# Altium schematic symbol library Altera.SchLib: 9 symbols (part 2 of 3)
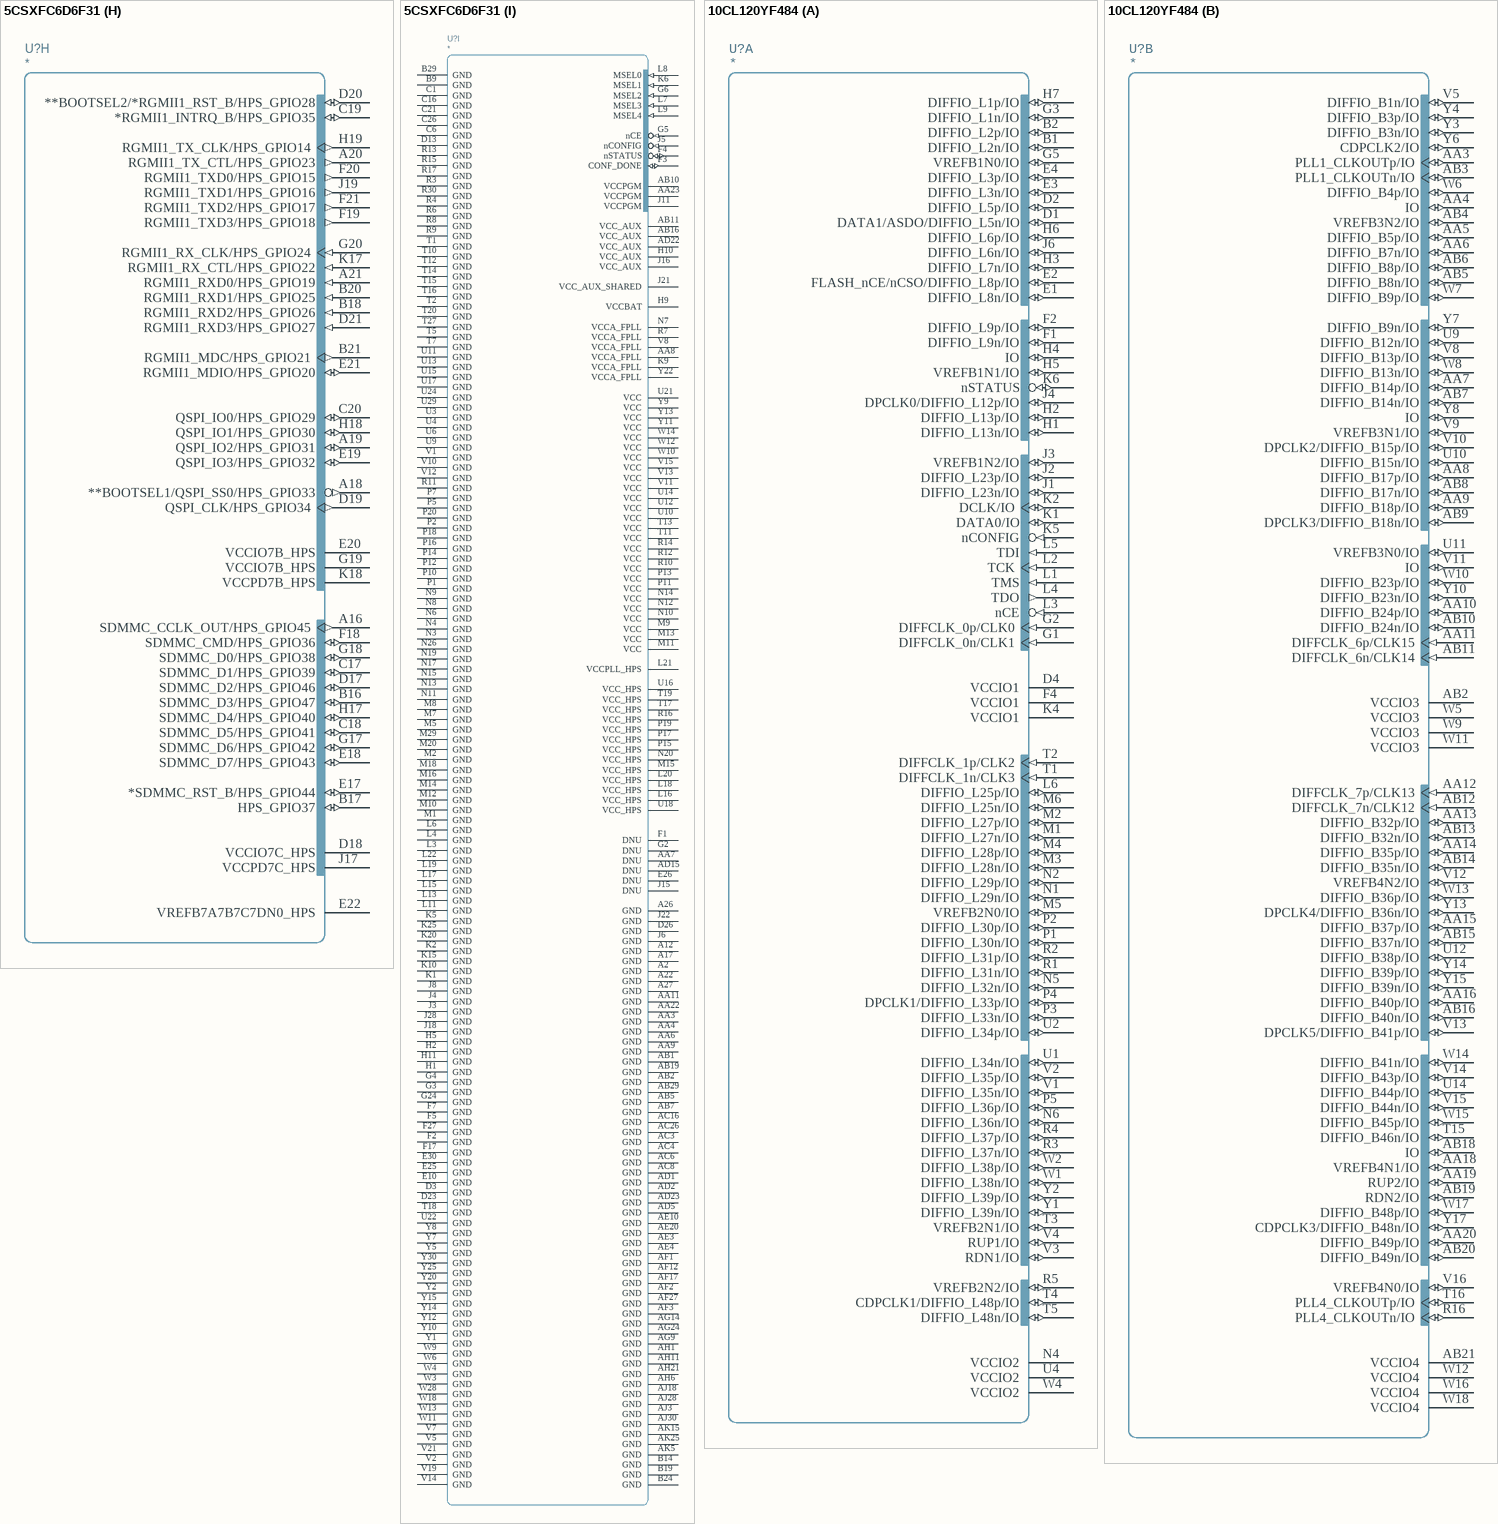
[diagram p14: symbols 5CSXFC6D6F31 to 10CL120YF484]

## 5CSXFC6D6F31
designator U?
part A pins: AA1 GXB_REFCLK_L2n/GXB_RX_L2n (in), AA2 GXB_REFCLK_L2p/GXB_RX_L2p (in), AA5 VCCE_GXBL, AB3 GXB_TX_L1n (out), AB4 GXB_TX_L1p (out), AB6 VCCH_GXBL, AC1 GXB_REFCLK_L1n/GXB_RX_L1n (in), AC2 GXB_REFCLK_L1p/GXB_RX_L1p (in), AD3 GXB_TX_L0n (out), AD4 GXB_TX_L0p (out), AE1 GXB_REFCLK_L0n/GXB_RX_L0n (in), AE2 GXB_REFCLK_L0p/GXB_RX_L0p (in), G1 RREF_TL (in), H3 GXB_TX_L8n (out), H4 GXB_TX_L8p (out), J1 GXB_REFCLK_L8n/GXB_RX_L8n (in), J2 GXB_REFCLK_L8p/GXB_RX_L8p (in), K3 GXB_TX_L7n (out), K4 GXB_TX_L7p (out), L1 GXB_REFCLK_L7n/GXB_RX_L7n (in), L2 GXB_REFCLK_L7p/GXB_RX_L7p (in), L5 VCCL_GXBL, M3 GXB_TX_L6n (out), M4 GXB_TX_L6p (out), M6 VCCE_GXBL, N1 GXB_REFCLK_L6n/GXB_RX_L6n (in), N2 GXB_REFCLK_L6p/GXB_RX_L6p (in), N5 VCCE_GXBL, P3 GXB_TX_L5n (out), P4 GXB_TX_L5p (out), P6 VCCH_GXBL, P8 REFCLK2Ln (in), P9 REFCLK2Lp (in), R1 GXB_REFCLK_L5n/GXB_RX_L5n (in), R2 GXB_REFCLK_L5p/GXB_RX_L5p (in), R5 VCCL_GXBL, T3 GXB_TX_L4n (out), T4 GXB_TX_L4p (out), T6 VCCE_GXBL, T8 REFCLK1Ln (in), T9 REFCLK1Lp (in), U1 GXB_REFCLK_L4n/GXB_RX_L4n (in), U2 GXB_REFCLK_L4p/GXB_RX_L4p (in), U5 VCCE_GXBL, V3 GXB_TX_L3n (out), V4 GXB_TX_L3p (out), V6 VCCH_GXBL, W1 GXB_REFCLK_L3n/GXB_RX_L3n (in), W2 GXB_REFCLK_L3p/GXB_RX_L3p (in), W5 VCCL_GXBL, W7 REFCLK0Ln (in), W8 REFCLK0Lp (in), Y3 GXB_TX_L2n (out), Y4 GXB_TX_L2p (out), Y6 VCCE_GXBL
part B pins: AA10 VCCPD3A, AA12 DIFFIO_RX_B11p/IO (io), AA13 DIFFIO_RX_B19p/IO (io), AA14 B_CK/DIFFIO_RX_B35p/IO (io), AA15 B_CK#/DIFFIO_RX_B35n/IO (io), AB8 nCSO/DATA4 (io), AB9 TDO (out), AB12 DIFFIO_RX_B11n/IO (io), AB13 DIFFIO_RX_B19n/IO (io), AB14 VCCIO3B, AB15 B_CS#_0/DIFFIO_RX_B27p/IO (io), AC5 TCK (in), AC7 AS_DATA3/DATA3 (io), AC9 DATA12/DIFFIO_RX_B3p/IO (io), AC10 VCCPD3A, AC11 VCCIO3A, AC12 DIFFIO_RX_B15p/IO (io), AC14 B_CS#_1/DIFFIO_RX_B27n/IO (io), AD6 VREFB3AN0, AD7 CLKUSR/DIFFIO_RX_B5p/IO (io), AD8 VCCIO3A, AD9 DATA7/DIFFIO_TX_B2p/IO (io), AD10 DATA10/DIFFIO_RX_B3n/IO (io), AD11 DATA8/DIFFIO_RX_B1p/IO (io), AD12 DIFFIO_RX_B15n/IO (io), AD13 VCCIO3B, AD14 DIFFIO_RX_B23p/IO (io), AE5 AS_DATA1/DATA1 (io), AE6 ASDO/AS_DATA0/DATA0 (io), AE7 DATA14/DIFFIO_RX_B5n/IO (io), AE8 AS_DATA2/DATA2 (io), AE9 DATA5/DIFFIO_TX_B2n/IO (io), AE11 DATA11/DIFFIO_TX_B4p/IO (io), AE12 DATA6/DIFFIO_RX_B1n/IO (io), AE13 DIFFIO_RX_B22p/IO (io), AE14 DIFFIO_RX_B23n/IO (io), AE15 VCCIO3B, AF4 PR_ERROR/DIFFIO_RX_B7p/IO (io), AF5 PR_DONE/DIFFIO_RX_B7n/IO (io), AF6 DIFFIO_TX_B12p/IO (io), AF7 VCCIO3A, AF8 DIFFIO_TX_B9p/IO (io), AF9 DIFFIO_TX_B8p/IO (io), AF10 DATA9/DIFFIO_TX_B4n/IO (io), AF11 DIFFIO_RX_B18p/IO (io), AF13 DIFFIO_RX_B22n/IO (io), AF14 CLK0p/FPLL_BL_FBp/DIFFIO_RX_B31p/IO (io), AF15 CLK0n/FPLL_BL_FBn/DIFFIO_RX_B31n/IO (io), AG1 DIFFIO_RX_B10p/IO (io), AG2 DIFFIO_TX_B16p/IO (io), AG3 DATA15/DIFFIO_TX_B6p/IO (io), AG4 VCCIO3A, AG5 DIFFIO_TX_B13p/IO (io), AG6 DIFFIO_TX_B12n/IO (io), AG7 DIFFIO_TX_B9n/IO (io), AG8 PR_READY/DIFFIO_TX_B8n/IO (io), AG10 DIFFIO_TX_B17p/IO (io), AG11 DIFFIO_RX_B18n/IO (io), AG12 B_A_14/DIFFIO_RX_B26p/IO (io), AG13 B_A_15/DIFFIO_RX_B26n/IO (io), AG15 B_A_4/DIFFIO_RX_B38p/IO (io), AH2 DIFFIO_RX_B10n/IO (io), AH3 DIFFIO_TX_B16n/IO (io), AH4 DATA13/DIFFIO_TX_B6n/IO (io), AH5 DIFFIO_TX_B13n/IO (io), AH7 B_CAS#/DIFFIO_TX_B32p/IO (io), AH8 B_RAS#/DIFFIO_TX_B32n/IO (io), AH9 DIFFIO_TX_B17n/IO (io), AH10 B_BA_0/DIFFIO_TX_B33p/IO (io), AH12 FPLL_BL_FB/FPLL_BL_CLKOUT0/FPLL_BL_CLKOUTp/B_A_2/DIFFIO_TX_B37p/IO (io), AH13 B_A_8/DIFFIO_RX_B30p/IO (io), AH14 B_A_9/DIFFIO_RX_B30n/IO (io), AH15 B_A_5/DIFFIO_RX_B38n/IO (io), AJ1 DIFFIO_RX_B14p/IO (io), AJ2 DIFFIO_RX_B14n/IO (io), AJ4 DIFFIO_TX_B21p/IO (io), AJ5 DIFFIO_TX_B24p/IO (io), AJ6 B_WE#/DIFFIO_TX_B25p/IO (io), AJ7 GND/DIFFIO_TX_B25n/IO (io), AJ8 VCCIO3B, AJ9 B_A_10/DIFFIO_TX_B29p/IO (io), AJ10 GND/DIFFIO_TX_B33n/IO (io), AJ11 B_BA_1/DIFFIO_RX_B34p/IO (io), AJ12 FPLL_BL_CLKOUT1/FPLL_BL_CLKOUTn/B_A_3/DIFFIO_TX_B37n/IO (io), AJ13 VCCIO3B, AJ14 B_A_0/DIFFIO_TX_B40p/IO (io), AJ15 VREFB3BN0, AK2 DIFFIO_TX_B20p/IO (io), AK3 DIFFIO_TX_B20n/IO (io), AK4 DIFFIO_TX_B21n/IO (io), AK6 DIFFIO_TX_B24n/IO (io), AK7 B_A_12/DIFFIO_TX_B28p/IO (io), AK8 B_A_13/DIFFIO_TX_B28n/IO (io), AK9 B_A_11/DIFFIO_TX_B29n/IO (io), AK10 VCCIO3B, AK11 B_BA_2/DIFFIO_RX_B34n/IO (io), AK12 B_A_6/DIFFIO_TX_B36p/IO (io), AK13 B_A_7/DIFFIO_TX_B36n/IO (io), AK14 B_A_1/DIFFIO_TX_B40n/IO (io), U7 DCLK (io), U8 TDI (in), V9 TMS (in), W15 CLK1p/DIFFIO_RX_B39p/IO (io), Y16 CLK1n/DIFFIO_RX_B39n/IO (io)
part C pins: AA16 CLK2p/DIFFIO_RX_B47p/IO (io), AA17 VCCIO4A, AA18 B_DQS#_2/DIFFIO_RX_B59n/IO (io), AA19 GND/DIFFIO_RX_B63n/IO (io), AA20 B_DQS#_4/DIFFIO_RX_B75n/IO (io), AA21 GND/DIFFIO_RX_B79p/IO (io), AB17 CLK2n/DIFFIO_RX_B47n/IO (io), AB18 VCCPD3B4A, AB20 VCCPD3B4A, AB21 GND/DIFFIO_RX_B79n/IO (io), AC13 VCCPD3B4A, AC15 VCCPD3B4A, AC17 VCCPD3B4A, AC18 CLK3p/DIFFIO_RX_B55p/IO (io), AC19 VCCPD3B4A, AC20 B_DQS_3/DIFFIO_RX_B67p/IO (io), AC21 VCCIO4A, AC22 B_DQ_37/DIFFIO_RX_B78p/IO (io), AC23 B_DQ_36/DIFFIO_RX_B78n/IO (io), AD16 VCCPD3B4A, AD17 CLK3n/DIFFIO_RX_B55n/IO (io), AD18 VCCIO4A, AD19 B_DQS#_3/DIFFIO_RX_B67n/IO (io), AD20 B_DQ_33/DIFFIO_RX_B74p/IO (io), AD21 B_DQ_32/DIFFIO_RX_B74n/IO (io), AD24 B_DM_4/DIFFIO_TX_B80p/IO (io), AE16 B_ODT_0/DIFFIO_TX_B44p/IO (io), AE17 B_DQ_1/DIFFIO_RX_B42p/IO (io), AE18 B_DQ_17/DIFFIO_RX_B58p/IO (io), AE19 B_DQ_16/DIFFIO_RX_B58n/IO (io), AE21 VCCPD3B4A, AE22 B_DQ_29/DIFFIO_RX_B70p/IO (io), AE23 B_DQ_28/DIFFIO_RX_B70n/IO (io), AE24 B_DQ_39/DIFFIO_TX_B80n/IO (io), AE25 VCCIO4A, AF16 B_DQ_3/DIFFIO_TX_B44n/IO (io), AF18 B_DQ_0/DIFFIO_RX_B42n/IO (io), AF19 B_DQ_13/DIFFIO_RX_B54p/IO (io), AF20 B_DQ_21/DIFFIO_RX_B62p/IO (io), AF21 B_DQ_20/DIFFIO_RX_B62n/IO (io), AF22 VCCIO4A, AF23 B_DQ_25/DIFFIO_RX_B66p/IO (io), AF24 B_DQ_24/DIFFIO_RX_B66n/IO (io), AF25 B_DQ_38/DIFFIO_TX_B77p/IO (io), AF26 GND/DIFFIO_TX_B77n/IO (io), AG16 B_DQ_2/DIFFIO_TX_B41p/IO (io), AG17 RZQ_0/DIFFIO_TX_B41n/IO (io), AG18 B_DQ_10/DIFFIO_TX_B49p/IO (io), AG19 VCCIO4A, AG20 B_DQ_12/DIFFIO_RX_B54n/IO (io), AG21 B_DQ_5/DIFFIO_RX_B46p/IO (io), AG22 B_DQ_18/DIFFIO_TX_B57p/IO (io), AG23 B_DM_1/DIFFIO_TX_B56p/IO (io), AG25 B_DQ_30/DIFFIO_TX_B69p/IO (io), AG26 GND/DIFFIO_TX_B76p/IO (io), AH16 VCCIO4A, AH17 B_DM_0/DIFFIO_TX_B48p/IO (io), AH18 B_DQ_7/DIFFIO_TX_B48n/IO (io), AH19 GND/DIFFIO_TX_B49n/IO (io), AH20 B_DQ_4/DIFFIO_RX_B46n/IO (io), AH22 GND/DIFFIO_TX_B57n/IO (io), AH23 B_DQ_22/DIFFIO_TX_B61p/IO (io), AH24 B_DQ_15/DIFFIO_TX_B56n/IO (io), AH25 GND/DIFFIO_TX_B69n/IO (io), AH26 VCCIO4A, AH27 B_DQ_35/DIFFIO_TX_B76n/IO (io), AJ16 B_DQ_6/DIFFIO_TX_B45p/IO (io), AJ17 B_DQ_9/DIFFIO_RX_B50p/IO (io), AJ19 B_CKE_1/DIFFIO_TX_B52p/IO (io), AJ20 B_DQ_14/DIFFIO_TX_B53p/IO (io), AJ21 B_CKE_0/DIFFIO_TX_B53n/IO (io), AJ22 GND/DIFFIO_TX_B61n/IO (io), AJ23 VCCIO4A, AJ24 B_DQ_26/DIFFIO_TX_B65p/IO (io), AJ25 GND/DIFFIO_TX_B65n/IO (io), AJ26 GND/DIFFIO_TX_B68p/IO (io), AJ27 B_DM_3/DIFFIO_TX_B72p/IO (io), AK16 B_ODT_1/DIFFIO_TX_B45n/IO (io), AK17 VREFB4AN0, AK18 B_DQ_8/DIFFIO_RX_B50n/IO (io), AK19 B_DQ_11/DIFFIO_TX_B52n/IO (io), AK20 VCCIO4A, AK21 B_RESET#/DIFFIO_TX_B60p/IO (io), AK22 B_DQ_19/DIFFIO_TX_B60n/IO (io), AK23 B_DM_2/DIFFIO_TX_B64p/IO (io), AK24 B_DQ_23/DIFFIO_TX_B64n/IO (io), AK26 B_DQ_27/DIFFIO_TX_B68n/IO (io), AK27 B_DQ_31/DIFFIO_TX_B72n/IO (io), AK28 B_DQ_34/DIFFIO_TX_B73p/IO (io), AK29 GND/DIFFIO_TX_B73n/IO (io), V16 B_DQS_0/DIFFIO_RX_B43p/IO (io), V17 B_DQS_1/DIFFIO_RX_B51p/IO (io), V18 GND/DIFFIO_RX_B71p/IO (io), W16 B_DQS#_0/DIFFIO_RX_B43n/IO (io), W17 B_DQS#_1/DIFFIO_RX_B51n/IO (io), W19 GND/DIFFIO_RX_B71n/IO (io), Y17 B_DQS_2/DIFFIO_RX_B59p/IO (io), Y18 GND/DIFFIO_RX_B63p/IO (io), Y19 B_DQS_4/DIFFIO_RX_B75p/IO (io)
part D pins: AA24 DIFFIO_RX_R9p/IO (io), AA25 DIFFIO_TX_R7p/IO (io), AA26 CLK5p/DIFFIO_RX_R21p/IO (io), AA27 VCCIO5B, AA28 DIFFIO_TX_R20n/IO (io), AA29 VREFB5BN0, AA30 DIFFIO_RX_R19n/IO (io), AB22 DIFFIO_RX_R8p/IO (io), AB23 DIFFIO_RX_R8n/IO (io), AB24 VCCIO5A, AB25 DIFFIO_RX_R9n/IO (io), AB26 DIFFIO_TX_R7n/IO (io), AB27 CLK5n/DIFFIO_RX_R21n/IO (io), AB28 DIFFIO_TX_R20p/IO (io), AB30 DIFFIO_RX_R19p/IO (io), AC24 VREFB5AN0, AC25 CRC_ERROR/DIFFIO_RX_R2n/IO (io), AC27 DIFFIO_RX_R15n/IO (io), AC28 DIFFIO_TX_R18p/IO (io), AC29 DIFFIO_TX_R18n/IO (io), AC30 RZQ_2/DIFFIO_TX_R24n/IO (io), AD25 INIT_DONE/DIFFIO_RX_R2p/IO (io), AD26 DIFFIO_RX_R15p/IO (io), AD27 DEV_CLRn/DIFFIO_TX_R5n/IO (io), AD28 VCCIO5A, AD29 FPLL_BR_CLKOUT1/FPLL_BR_CLKOUTn/DIFFIO_TX_R22n/IO (io), AD30 DIFFIO_TX_R24p/IO (io), AE26 DEV_OE/DIFFIO_TX_R5p/IO (io), AE27 DIFFIO_TX_R10p/IO (io), AE28 DIFFIO_TX_R10n/IO (io), AE29 FPLL_BR_FB/FPLL_BR_CLKOUT0/FPLL_BR_CLKOUTp/DIFFIO_TX_R22p/IO (io), AE30 VCCIO5B, AF28 DIFFIO_TX_R12n/IO (io), AF29 DIFFIO_TX_R14p/IO (io), AF30 DIFFIO_TX_R14n/IO (io), AG27 RZQ_1/DIFFIO_TX_R1p/IO (io), AG28 DIFFIO_TX_R12p/IO (io), AG29 VCCIO5A, AG30 DIFFIO_TX_R16n/IO (io), AH28 PR_REQUEST/DIFFIO_TX_R1n/IO (io), AH29 CvP_CONFDONE/DIFFIO_TX_R3n/IO (io), AH30 DIFFIO_TX_R16p/IO (io), AJ29 nCEO/DIFFIO_TX_R3p/IO (io), U23 VCCPD5B, V22 VCCPD5A, V23 DIFFIO_RX_R13p/IO (io), V24 VCCPD5A, V25 DIFFIO_RX_R17n/IO (io), W20 DIFFIO_RX_R4p/IO (io), W21 nPERSTL0/DIFFIO_RX_R6p/IO (io), W22 nPERSTL1/DIFFIO_RX_R6n/IO (io), W23 VCCIO5A, W24 DIFFIO_RX_R13n/IO (io), W25 DIFFIO_RX_R17p/IO (io), Y21 DIFFIO_RX_R4n/IO (io), Y23 DIFFIO_RX_R11p/IO (io), Y24 DIFFIO_RX_R11n/IO (io), Y26 CLK4p/FPLL_BR_FBp/DIFFIO_RX_R23p/IO (io), Y27 CLK4n/FPLL_BR_FBn/DIFFIO_RX_R23n/IO (io)
part E pins: A3 DIFFIO_TX_T18n/IO (io), A4 DIFFIO_TX_T18p/IO (io), A5 DIFFIO_TX_T16n/IO (io), A6 DIFFIO_TX_T16p/IO (io), A7 VCCIO8A, A8 DIFFIO_TX_T8n/IO (io), A9 DIFFIO_TX_T8p/IO (io), A10 FPLL_TL_CLKOUT1/FPLL_TL_CLKOUTn/DIFFIO_TX_T4n/IO (io), A11 FPLL_TL_FB/FPLL_TL_CLKOUT0/FPLL_TL_CLKOUTp/DIFFIO_TX_T4p/IO (io), A13 DIFFIO_TX_T2n/IO (io), B1 DIFFIO_TX_T26n/IO (io), B2 DIFFIO_TX_T26p/IO (io), B3 DIFFIO_TX_T28n/IO (io), B4 VCCIO8A, B5 DIFFIO_RX_T27n/IO (io), B6 DIFFIO_RX_T27p/IO (io), B7 DIFFIO_TX_T10n/IO (io), B8 DIFFIO_TX_T12n/IO (io), B10 VREFB8AN0, B11 DIFFIO_TX_T6n/IO (io), B12 DIFFIO_RX_T3n/IO (io), B13 DIFFIO_TX_T2p/IO (io), C2 DIFFIO_TX_T30n/IO (io), C3 DIFFIO_TX_T28p/IO (io), C4 DIFFIO_TX_T22n/IO (io), C5 DIFFIO_TX_T20n/IO (io), C7 DIFFIO_TX_T10p/IO (io), C8 DIFFIO_TX_T12p/IO (io), C9 DIFFIO_TX_T14n/IO (io), C10 DIFFIO_TX_T14p/IO (io), C11 VCCIO8A, C12 DIFFIO_TX_T6p/IO (io), C13 DIFFIO_RX_T3p/IO (io), D1 DIFFIO_TX_T36n/IO (io), D2 DIFFIO_TX_T30p/IO (io), D4 DIFFIO_TX_T32n/IO (io), D5 DIFFIO_TX_T22p/IO (io), D6 DIFFIO_TX_T20p/IO (io), D7 DIFFIO_TX_T24n/IO (io), D8 VCCIO8A, D9 DIFFIO_RX_T11n/IO (io), D10 DIFFIO_RX_T7n/IO (io), D11 DIFFIO_RX_T7p/IO (io), D12 DIFFIO_RX_T19n/IO (io), E1 DIFFIO_TX_T36p/IO (io), E2 DIFFIO_TX_T34n/IO (io), E3 DIFFIO_TX_T34p/IO (io), E4 DIFFIO_TX_T32p/IO (io), E5 VCCIO8A, E6 DIFFIO_TX_T38n/IO (io), E7 DIFFIO_TX_T38p/IO (io), E8 DIFFIO_TX_T24p/IO (io), E9 DIFFIO_RX_T11p/IO (io), E11 DIFFIO_RX_T23n/IO (io), E12 DIFFIO_RX_T19p/IO (io), E13 DIFFIO_RX_T15n/IO (io), F6 DIFFIO_TX_T40n/IO (io), F8 DIFFIO_RX_T39n/IO (io), F9 DIFFIO_RX_T39p/IO (io), F10 DIFFIO_RX_T35n/IO (io), F11 DIFFIO_RX_T23p/IO (io), F12 VCCIO8A, F13 DIFFIO_RX_T15p/IO (io), F14 DIFFIO_RX_T5n/IO (io), F15 DIFFIO_RX_T5p/IO (io), G7 DIFFIO_TX_T40p/IO (io), G8 DIFFIO_RX_T17n/IO (io), G9 VCCIO8A, G10 DIFFIO_RX_T35p/IO (io), G11 DIFFIO_RX_T31n/IO (io), G12 DIFFIO_RX_T31p/IO (io), G13 DIFFIO_RX_T13n/IO (io), G14 VCCIO8A, G15 CLK7n/DIFFIO_RX_T1n/IO (io), H6 VCCIO8A, H7 DIFFIO_RX_T25n/IO (io), H8 DIFFIO_RX_T17p/IO (io), H12 DIFFIO_RX_T21n/IO (io), H13 DIFFIO_RX_T21p/IO (io), H14 DIFFIO_RX_T13p/IO (io), H15 CLK7p/DIFFIO_RX_T1p/IO (io), J7 DIFFIO_RX_T25p/IO (io), J9 DIFFIO_RX_T37n/IO (io), J10 DIFFIO_RX_T37p/IO (io), J12 DIFFIO_RX_T29n/IO (io), J13 VCCIO8A, J14 CLK6n/FPLL_TL_FBn/DIFFIO_RX_T9n/IO (io), K7 DIFFIO_RX_T33p/IO (io), K8 DIFFIO_RX_T33n/IO (io), K11 VCCPD8A, K12 DIFFIO_RX_T29p/IO (io), K13 VCCPD8A, K14 CLK6p/FPLL_TL_FBp/DIFFIO_RX_T9p/IO (io), L10 VCCPD8A, L12 VCCPD8A, L14 VCCPD8A
part F pins: B30 HPS_A_12 (out), C28 HPS_WE# (out), C29 HPS_A_13 (out), C30 HPS_A_11 (out), D27 HPS_RZQ_0 (in), D28 VCCIO6A_HPS, D29 HPS_A_10 (out), D30 HPS_RAS# (out), E27 HPS_CAS# (out), E28 HPS_A_7 (out), E29 HPS_BA_0 (out), F26 HPS_A_0 (out), F28 HPS_A_2 (out), F29 HPS_A_6 (out), F30 HPS_A_3 (out), G25 HPS_A_15 (out), G26 HPS_A_9 (out), G27 VREFB6AN0_HPS, G28 HPS_DQ_3 (io), G29 VCCIO6A_HPS, G30 HPS_A_1 (out), H24 HPS_CS#_0 (out), H25 HPS_A_14 (out), H26 VCCIO6A_HPS, H27 HPS_A_8 (out), H28 HPS_ODT_0 (out), H29 HPS_ODT_1 (out), H30 HPS_DQ_2 (io), J23 HPS_BA_2 (out), J24 HPS_BA_1 (out), J25 HPS_A_4 (out), J26 HPS_GPI1 (in), J27 HPS_A_5 (out), J29 HPS_DQ_7 (io), J30 HPS_DQ_6 (io), K21 HPS_CS#_1 (out), K22 HPS_DQ_1 (io), K23 HPS_DQ_0 (io), K24 VCCIO6A_HPS, K26 HPS_DQ_8 (io), K27 HPS_DQ_11 (io), K28 HPS_DM_0 (out), K29 HPS_DQ_10 (io), K30 VCCIO6A_HPS, L23 HPS_CK# (out), L24 HPS_DQ_5 (io), L25 HPS_DQ_4 (io), L26 HPS_DQ_9 (io), L27 VCCIO6A_HPS, L28 HPS_DQ_14 (io), L29 HPS_CKE_0 (out), L30 HPS_CKE_1 (out), M19 HPS_DQS#_0 (io), M21 VCCPD6A6B_HPS, M22 HPS_GPI3 (in), M23 HPS_CK (out), M24 VCCIO6A_HPS, M25 HPS_GPI0 (in), M26 HPS_DQ_12 (io), M27 HPS_DQ_13 (io), M28 HPS_DM_1 (out), M30 HPS_DQ_15 (io), N18 HPS_DQS_0 (io), N21 VCCIO6A_HPS, N22 VCCPD6A6B_HPS, N23 HPS_GPI2 (in), N24 HPS_DQS#_1 (io), N25 HPS_DQS_1 (io), N27 HPS_DQ_22 (io), N28 HPS_DQ_19 (io), N29 HPS_DQ_18 (io), N30 HPS_GPI4 (in), P21 VCCPD6A6B_HPS, P22 HPS_GPI6 (in), P23 VCCIO6B_HPS, P24 HPS_DQ_24 (io), P25 HPS_DQ_25 (io), P26 HPS_DQ_20 (io), P27 HPS_DQ_21 (io), P28 VCCIO6B_HPS, P29 HPS_GPI5 (in), P30 HPS_RESET# (out), R18 HPS_DQS#_2 (io), R19 HPS_DQS_2 (io), R20 VCCPD6A6B_HPS, R21 HPS_DQS#_3 (io), R22 HPS_DQS_3 (io), R23 VCCPD6A6B_HPS, R24 HPS_DQ_33 (io), R25 VCCIO6B_HPS, R26 HPS_DQ_29 (io), R27 HPS_DQ_28 (io), R28 HPS_DM_2 (out), R29 HPS_DQ_23 (io), T21 HPS_GPI10 (in), T22 VCCIO6B_HPS, T23 HPS_DQS#_4 (io), T24 HPS_DQS_4 (io), T25 HPS_DQ_36 (io), T26 HPS_DQ_17 (io), T28 HPS_DQ_27 (io), T29 HPS_DQ_26 (io), T30 HPS_GPI8 (in), U19 VCCIO6B_HPS, U20 HPS_GPI11 (in), U25 HPS_DQ_37 (io), U26 HPS_DQ_16 (io), U27 HPS_DQ_34 (io), U28 HPS_GPI9 (in), U30 VREFB6BN0_HPS, V20 HPS_GPI7 (in), V26 VCCIO6B_HPS, V27 HPS_DQ_38 (io), V28 HPS_DQ_35 (io), V29 HPS_GPI12 (in), V30 HPS_DQ_30 (io), W26 HPS_DQ_32 (io), W27 HPS_DM_4 (out), W29 HPS_DQ_31 (io), W30 HPS_DM_3 (out), Y28 HPS_GPI13 (in), Y29 HPS_DQ_39 (io)
part G pins: A14 USB1_NXT/HPS_GPIO13 (in), A15 USB1_D4/HPS_GPIO5 (io), A23 SPIM0_CLK/HPS_GPIO57 (out), A24 HPS_GPIO53 (io), A25 TRACE_D2/HPS_GPIO51 (io), A28 HPS_TRST_B (in), A29 HPS_TMS (in), B15 *USB1_RST_B/HPS_GPIO9 (io), B22 SPIM0_SS1/HPS_GPIO61 (out), B23 SPIM0_MISO/HPS_GPIO59 (in), B25 TRACE_D0/HPS_GPIO49 (io), B26 TRACE_CLK/HPS_GPIO48 (io), B27 HPS_TDI (in), B28 HPS_TDO (out), C14 USB1_D5/HPS_GPIO6 (io), C15 USB1_STP/HPS_GPIO11 (out), C22 SPIM0_MOSI/HPS_GPIO58 (out), C23 I2C0_SDA/HPS_GPIO63 (io), C24 HPS_GPIO55 (io), C25 TRACE_D1/HPS_GPIO50 (io), C27 HPS_nRST (io), D14 USB1_D3/HPS_GPIO4 (io), D15 USB1_D6/HPS_GPIO7 (io), D16 USB1_D2/HPS_GPIO3 (io), D22 I2C0_SCL/HPS_GPIO64 (io), D24 **CLKSEL0/UART0_TX/HPS_GPIO66 (out), D25 HPS_CLK1 (in), E14 USB1_DIR/HPS_GPIO12 (in), E15 VCCIO7D_HPS, E16 USB1_D0/HPS_GPIO1 (io), E23 HPS_GPIO56 (io), E24 UART0_RX/HPS_GPIO65 (in), F16 HPS_GPIO0 (io), F22 VCCIO7A_HPS, F23 HPS_nPOR (in), F24 HPS_PORSEL (in), F25 HPS_CLK2 (in), G16 USB1_D1/HPS_GPIO2 (io), G21 HPS_GPIO54 (io), G22 **CLKSEL1/HPS_GPIO62 (io), G23 VCCRSTCLK_HPS, H16 VCCIO7D_HPS, H20 **BOOTSEL0/SPIM0_SS0/HPS_GPIO60 (out), H21 VCCIO7A_HPS, H22 HPS_TCK (in), H23 TRACE_D3/HPS_GPIO52 (io), J20 VCCRSTCLK_HPS, K16 VCCPD7D_HPS, K19 VCCPD7A_HPS, M17 USB1_D7/HPS_GPIO8 (io), N16 USB1_CLK/HPS_GPIO10 (in)
part H pins: A16 SDMMC_CCLK_OUT/HPS_GPIO45 (out), A18 **BOOTSEL1/QSPI_SS0/HPS_GPIO33 (out), A19 QSPI_IO2/HPS_GPIO31 (io), A20 RGMII1_TX_CTL/HPS_GPIO23 (out), A21 RGMII1_RXD0/HPS_GPIO19 (in), B16 SDMMC_D3/HPS_GPIO47 (io), B17 HPS_GPIO37 (io), B18 RGMII1_RXD2/HPS_GPIO26 (in), B20 RGMII1_RXD1/HPS_GPIO25 (in), B21 RGMII1_MDC/HPS_GPIO21 (out), C17 SDMMC_D1/HPS_GPIO39 (io), C18 SDMMC_D5/HPS_GPIO41 (io), C19 *RGMII1_INTRQ_B/HPS_GPIO35 (io), C20 QSPI_IO0/HPS_GPIO29 (io), D17 SDMMC_D2/HPS_GPIO46 (io), D18 VCCIO7C_HPS, D19 QSPI_CLK/HPS_GPIO34 (out), D20 **BOOTSEL2/*RGMII1_RST_B/HPS_GPIO28 (io), D21 RGMII1_RXD3/HPS_GPIO27 (in), E17 *SDMMC_RST_B/HPS_GPIO44 (io), E18 SDMMC_D7/HPS_GPIO43 (io), E19 QSPI_IO3/HPS_GPIO32 (io), E20 VCCIO7B_HPS, E21 RGMII1_MDIO/HPS_GPIO20 (io), E22 VREFB7A7B7C7DN0_HPS, F18 SDMMC_CMD/HPS_GPIO36 (io), F19 RGMII1_TXD3/HPS_GPIO18 (out), F20 RGMII1_TXD0/HPS_GPIO15 (out), F21 RGMII1_TXD2/HPS_GPIO17 (out), G17 SDMMC_D6/HPS_GPIO42 (io), G18 SDMMC_D0/HPS_GPIO38 (io), G19 VCCIO7B_HPS, G20 RGMII1_RX_CLK/HPS_GPIO24 (in), H17 SDMMC_D4/HPS_GPIO40 (io), H18 QSPI_IO1/HPS_GPIO30 (io), H19 RGMII1_TX_CLK/HPS_GPIO14 (out), J17 VCCPD7C_HPS, J19 RGMII1_TXD1/HPS_GPIO16 (out), K17 RGMII1_RX_CTL/HPS_GPIO22 (in), K18 VCCPD7B_HPS
part I pins: A2 GND, A12 GND, A17 GND, A22 GND, A26 GND, A27 GND, AA3 GND, AA4 GND, AA6 GND, AA7 DNU, AA8 VCCA_FPLL, AA9 GND, AA11 GND, AA22 GND, AA23 VCCPGM, AB1 GND, AB2 GND, AB5 GND, AB7 GND, AB10 VCCPGM, AB11 VCC_AUX, AB16 VCC_AUX, AB19 GND, AB29 GND, AC3 GND, AC4 GND, AC6 GND, AC8 GND, AC16 GND, AC26 GND, AD1 GND, AD2 GND, AD5 GND, AD15 DNU, AD22 VCC_AUX, AD23 GND, AE3 GND, AE4 GND, AE10 GND, AE20 GND, AF1 GND, AF2 GND, AF3 GND, AF12 GND, AF17 GND, AF27 GND, AG9 GND, AG14 GND, AG24 GND, AH1 GND, AH6 GND, AH11 GND, AH21 GND, AJ3 GND, AJ18 GND, AJ28 GND, AJ30 GND, AK5 GND, AK15 GND, AK25 GND, B9 GND, B14 GND, B19 GND, B24 GND, B29 GND, C1 GND, C6 GND, C16 GND, C21 GND, C26 GND, D3 GND, D13 GND, D23 GND, D26 GND, E10 GND, E25 GND, E26 DNU, E30 GND, F1 DNU, F2 GND, F3 CONF_DONE (io), F4 nSTATUS (io), F5 GND, F7 GND, F17 GND, F27 GND, G2 DNU, G3 GND, G4 GND, G5 nCE (in), G6 MSEL2 (in), G24 GND, H1 GND, H2 GND, H5 GND, H9 VCCBAT, H10 VCC_AUX, H11 GND, J3 GND, J4 GND, J5 nCONFIG (in), J6 GND, J8 GND, J11 VCCPGM, J15 DNU, J16 VCC_AUX, J18 GND, J21 VCC_AUX_SHARED, J22 GND, J28 GND, K1 GND, K2 GND, K5 GND, K6 MSEL1 (in), K9 VCCA_FPLL, K10 GND, K15 GND, K20 GND, K25 GND, L3 GND, L4 GND, L6 GND, L7 MSEL3 (in), L8 MSEL0 (in), L9 MSEL4 (in), L11 GND, L13 GND, L15 GND, L16 VCC_HPS, L17 GND, L18 VCC_HPS, L19 GND, L20 VCC_HPS, L21 VCCPLL_HPS, L22 GND, M1 GND, M2 GND, M5 GND, M7 GND, M8 GND, M9 VCC, M10 GND, M11 VCC, M12 GND, M13 VCC, M14 GND, M15 VCC_HPS, M16 GND, M18 GND, M20 GND, M29 GND, N3 GND, N4 GND, N6 GND, N7 VCCA_FPLL, N8 GND, N9 GND, N10 VCC, N11 GND, N12 VCC, N13 GND, N14 VCC, N15 GND, N17 GND, N19 GND, N20 VCC_HPS, N26 GND, P1 GND, P2 GND, P5 GND, P7 GND, P10 GND, P11 VCC, P12 GND, P13 VCC, P14 GND, P15 VCC_HPS, P16 GND, P17 VCC_HPS, P18 GND, P19 VCC_HPS, P20 GND, R3 GND, R4 GND, R6 GND, R7 VCCA_FPLL, R8 GND, R9 GND, R10 VCC, R11 GND, R12 VCC, R13 GND, R14 VCC, R15 GND, R16 VCC_HPS, R17 GND, R30 GND, T1 GND, T2 GND, T5 GND, T7 GND, T10 GND, T11 VCC, T12 GND, T13 VCC, T14 GND, T15 GND, T16 GND, T17 VCC_HPS, T18 GND, T19 VCC_HPS, T20 GND, T27 GND, U3 GND, U4 GND, U6 GND, U9 GND, U10 VCC, U11 GND, U12 VCC, U13 GND, U14 VCC, U15 GND, U16 VCC_HPS, U17 GND, U18 VCC_HPS, U21 VCC, U22 GND, U24 GND, U29 GND, V1 GND, V2 GND, V5 GND, V7 GND, V8 VCCA_FPLL, V10 GND, V11 VCC, V12 GND, V13 VCC, V14 GND, V15 VCC, V19 GND, V21 GND, W3 GND, W4 GND, W6 GND, W9 GND, W10 VCC, W11 GND, W12 VCC, W13 GND, W14 VCC, W18 GND, W28 GND, Y1 GND, Y2 GND, Y5 GND, Y7 GND, Y8 GND, Y9 VCC, Y10 GND, Y11 VCC, Y12 GND, Y13 VCC, Y14 GND, Y15 GND, Y20 GND, Y22 VCCA_FPLL, Y25 GND, Y30 GND

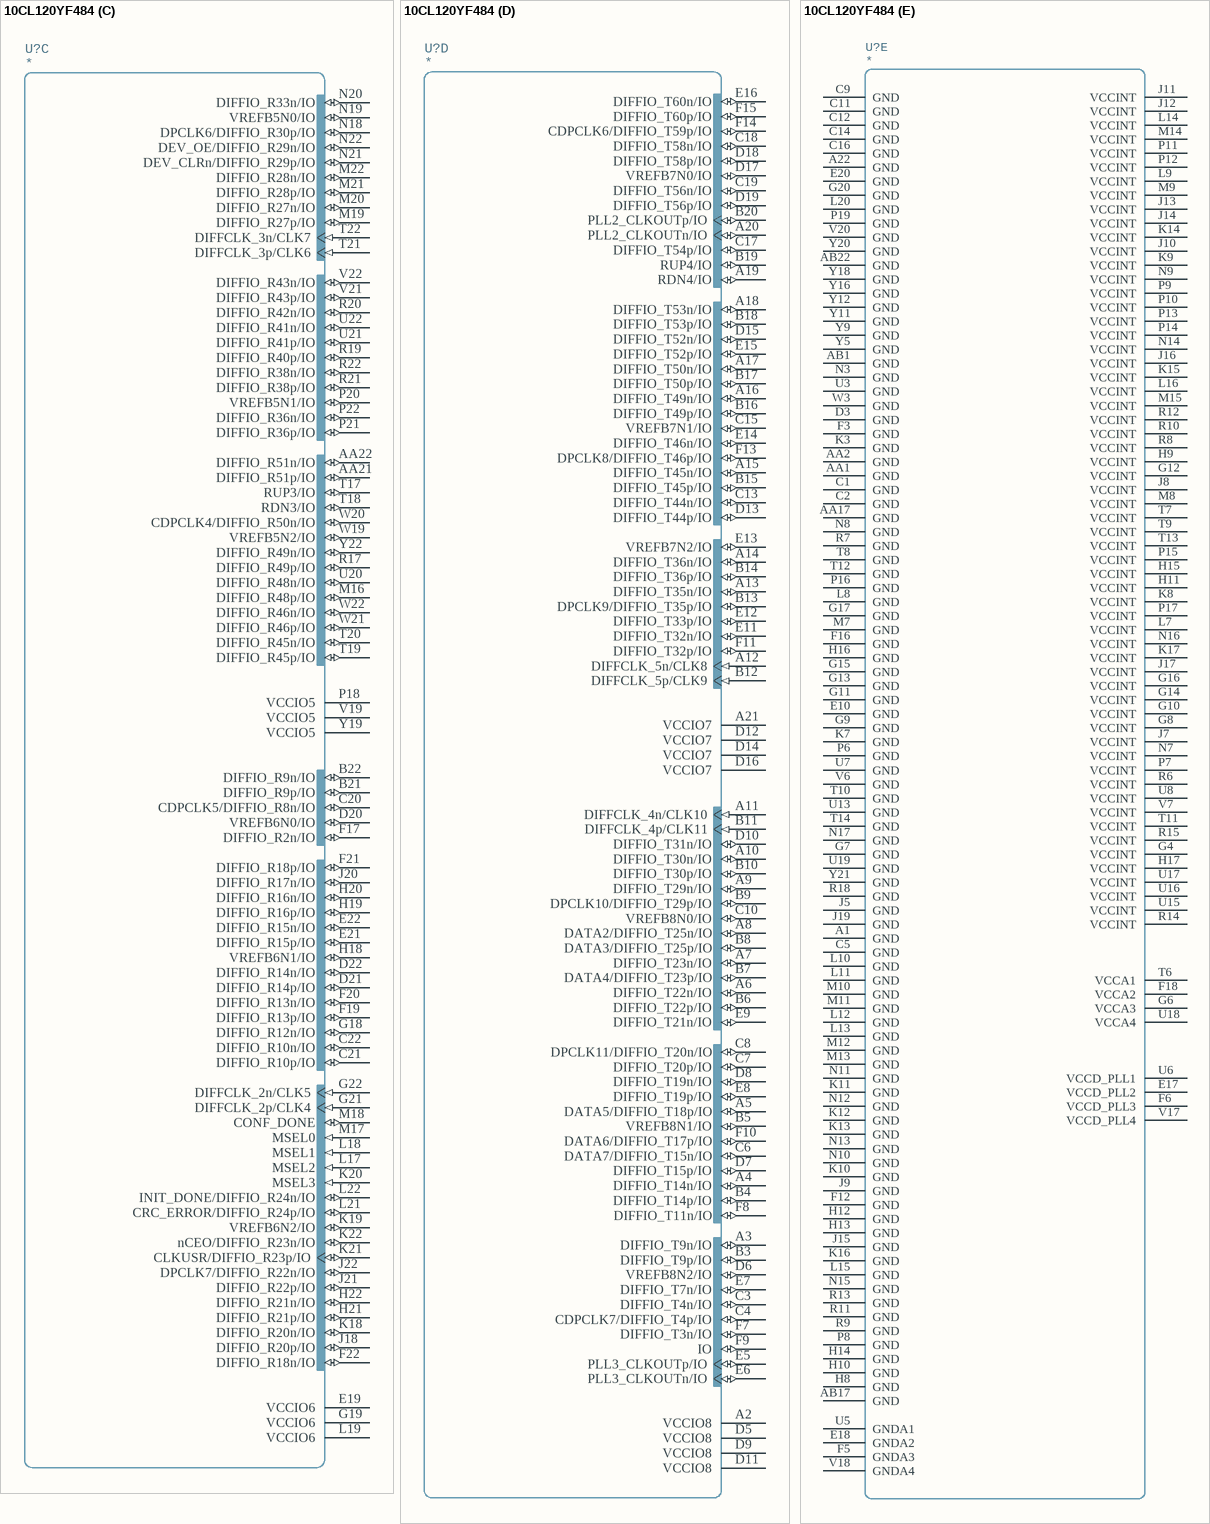
[diagram p7: symbol 10CL120YF484]

## 10CL120YF484
designator U?
part A pins: B1 DIFFIO_L2n/IO (io), B2 DIFFIO_L2p/IO (io), D1 DATA1/ASDO/DIFFIO_L5n/IO (io), D2 DIFFIO_L5p/IO (io), D4 VCCIO1, E1 DIFFIO_L8n/IO (io), E2 FLASH_nCE/nCSO/DIFFIO_L8p/IO (io), E3 DIFFIO_L3n/IO (io), E4 DIFFIO_L3p/IO (io), F1 DIFFIO_L9n/IO (io), F2 DIFFIO_L9p/IO (io), F4 VCCIO1, G1 DIFFCLK_0n/CLK1 (in), G2 DIFFCLK_0p/CLK0 (in), G3 DIFFIO_L1n/IO (io), G5 VREFB1N0/IO (io), H1 DIFFIO_L13n/IO (io), H2 DIFFIO_L13p/IO (io), H3 DIFFIO_L7n/IO (io), H4 IO (io), H5 VREFB1N1/IO (io), H6 DIFFIO_L6p/IO (io), H7 DIFFIO_L1p/IO (io), J1 DIFFIO_L23n/IO (io), J2 DIFFIO_L23p/IO (io), J3 VREFB1N2/IO (io), J4 DPCLK0/DIFFIO_L12p/IO (io), J6 DIFFIO_L6n/IO (io), K1 DATA0/IO (io), K2 DCLK/IO (io), K4 VCCIO1, K5 nCONFIG (in), K6 nSTATUS (io), L1 TMS (in), L2 TCK (in), L3 nCE (in), L4 TDO (out), L5 TDI (in), L6 DIFFIO_L25p/IO (io), M1 DIFFIO_L27n/IO (io), M2 DIFFIO_L27p/IO (io), M3 DIFFIO_L28n/IO (io), M4 DIFFIO_L28p/IO (io), M5 VREFB2N0/IO (io), M6 DIFFIO_L25n/IO (io), N1 DIFFIO_L29n/IO (io), N2 DIFFIO_L29p/IO (io), N4 VCCIO2, N5 DIFFIO_L32n/IO (io), N6 DIFFIO_L36n/IO (io), P1 DIFFIO_L30n/IO (io), P2 DIFFIO_L30p/IO (io), P3 DIFFIO_L33n/IO (io), P4 DPCLK1/DIFFIO_L33p/IO (io), P5 DIFFIO_L36p/IO (io), R1 DIFFIO_L31n/IO (io), R2 DIFFIO_L31p/IO (io), R3 DIFFIO_L37n/IO (io), R4 DIFFIO_L37p/IO (io), R5 VREFB2N2/IO (io), T1 DIFFCLK_1n/CLK3 (in), T2 DIFFCLK_1p/CLK2 (in), T3 VREFB2N1/IO (io), T4 CDPCLK1/DIFFIO_L48p/IO (io), T5 DIFFIO_L48n/IO (io), U1 DIFFIO_L34n/IO (io), U2 DIFFIO_L34p/IO (io), U4 VCCIO2, V1 DIFFIO_L35n/IO (io), V2 DIFFIO_L35p/IO (io), V3 RDN1/IO (io), V4 RUP1/IO (io), W1 DIFFIO_L38n/IO (io), W2 DIFFIO_L38p/IO (io), W4 VCCIO2, Y1 DIFFIO_L39n/IO (io), Y2 DIFFIO_L39p/IO (io)
part B pins: AA3 PLL1_CLKOUTp/IO (io), AA4 IO (io), AA5 DIFFIO_B5p/IO (io), AA6 DIFFIO_B7n/IO (io), AA7 DIFFIO_B14p/IO (io), AA8 DIFFIO_B17p/IO (io), AA9 DIFFIO_B18p/IO (io), AA10 DIFFIO_B24p/IO (io), AA11 DIFFCLK_6p/CLK15 (in), AA12 DIFFCLK_7p/CLK13 (in), AA13 DIFFIO_B32p/IO (io), AA14 DIFFIO_B35p/IO (io), AA15 DIFFIO_B37p/IO (io), AA16 DIFFIO_B40p/IO (io), AA18 VREFB4N1/IO (io), AA19 RUP2/IO (io), AA20 DIFFIO_B49p/IO (io), AB2 VCCIO3, AB3 PLL1_CLKOUTn/IO (io), AB4 VREFB3N2/IO (io), AB5 DIFFIO_B8n/IO (io), AB6 DIFFIO_B8p/IO (io), AB7 DIFFIO_B14n/IO (io), AB8 DIFFIO_B17n/IO (io), AB9 DPCLK3/DIFFIO_B18n/IO (io), AB10 DIFFIO_B24n/IO (io), AB11 DIFFCLK_6n/CLK14 (in), AB12 DIFFCLK_7n/CLK12 (in), AB13 DIFFIO_B32n/IO (io), AB14 DIFFIO_B35n/IO (io), AB15 DIFFIO_B37n/IO (io), AB16 DIFFIO_B40n/IO (io), AB18 IO (io), AB19 RDN2/IO (io), AB20 DIFFIO_B49n/IO (io), AB21 VCCIO4, R16 PLL4_CLKOUTn/IO (io), T15 DIFFIO_B46n/IO (io), T16 PLL4_CLKOUTp/IO (io), U9 DIFFIO_B12n/IO (io), U10 DIFFIO_B15n/IO (io), U11 VREFB3N0/IO (io), U12 DIFFIO_B38p/IO (io), U14 DIFFIO_B44p/IO (io), V5 DIFFIO_B1n/IO (io), V8 DIFFIO_B13p/IO (io), V9 VREFB3N1/IO (io), V10 DPCLK2/DIFFIO_B15p/IO (io), V11 IO (io), V12 VREFB4N2/IO (io), V13 DPCLK5/DIFFIO_B41p/IO (io), V14 DIFFIO_B43p/IO (io), V15 DIFFIO_B44n/IO (io), V16 VREFB4N0/IO (io), W5 VCCIO3, W6 DIFFIO_B4p/IO (io), W7 DIFFIO_B9p/IO (io), W8 DIFFIO_B13n/IO (io), W9 VCCIO3, W10 DIFFIO_B23p/IO (io), W11 VCCIO3, W12 VCCIO4, W13 DIFFIO_B36p/IO (io), W14 DIFFIO_B41n/IO (io), W15 DIFFIO_B45p/IO (io), W16 VCCIO4, W17 DIFFIO_B48p/IO (io), W18 VCCIO4, Y3 DIFFIO_B3n/IO (io), Y4 DIFFIO_B3p/IO (io), Y6 CDPCLK2/IO (io), Y7 DIFFIO_B9n/IO (io), Y8 IO (io), Y10 DIFFIO_B23n/IO (io), Y13 DPCLK4/DIFFIO_B36n/IO (io), Y14 DIFFIO_B39p/IO (io), Y15 DIFFIO_B39n/IO (io), Y17 CDPCLK3/DIFFIO_B48n/IO (io)
part C pins: AA21 DIFFIO_R51p/IO (io), AA22 DIFFIO_R51n/IO (io), B21 DIFFIO_R9p/IO (io), B22 DIFFIO_R9n/IO (io), C20 CDPCLK5/DIFFIO_R8n/IO (io), C21 DIFFIO_R10p/IO (io), C22 DIFFIO_R10n/IO (io), D20 VREFB6N0/IO (io), D21 DIFFIO_R14p/IO (io), D22 DIFFIO_R14n/IO (io), E19 VCCIO6, E21 DIFFIO_R15p/IO (io), E22 DIFFIO_R15n/IO (io), F17 DIFFIO_R2n/IO (io), F19 DIFFIO_R13p/IO (io), F20 DIFFIO_R13n/IO (io), F21 DIFFIO_R18p/IO (io), F22 DIFFIO_R18n/IO (io), G18 DIFFIO_R12n/IO (io), G19 VCCIO6, G21 DIFFCLK_2p/CLK4 (in), G22 DIFFCLK_2n/CLK5 (in), H18 VREFB6N1/IO (io), H19 DIFFIO_R16p/IO (io), H20 DIFFIO_R16n/IO (io), H21 DIFFIO_R21p/IO (io), H22 DIFFIO_R21n/IO (io), J18 DIFFIO_R20p/IO (io), J20 DIFFIO_R17n/IO (io), J21 DIFFIO_R22p/IO (io), J22 DPCLK7/DIFFIO_R22n/IO (io), K18 DIFFIO_R20n/IO (io), K19 VREFB6N2/IO (io), K20 MSEL3 (in), K21 CLKUSR/DIFFIO_R23p/IO (io), K22 nCEO/DIFFIO_R23n/IO (io), L17 MSEL2 (in), L18 MSEL1 (in), L19 VCCIO6, L21 CRC_ERROR/DIFFIO_R24p/IO (io), L22 INIT_DONE/DIFFIO_R24n/IO (io), M16 DIFFIO_R48p/IO (io), M17 MSEL0 (in), M18 CONF_DONE (io), M19 DIFFIO_R27p/IO (io), M20 DIFFIO_R27n/IO (io), M21 DIFFIO_R28p/IO (io), M22 DIFFIO_R28n/IO (io), N18 DPCLK6/DIFFIO_R30p/IO (io), N19 VREFB5N0/IO (io), N20 DIFFIO_R33n/IO (io), N21 DEV_CLRn/DIFFIO_R29p/IO (io), N22 DEV_OE/DIFFIO_R29n/IO (io), P18 VCCIO5, P20 VREFB5N1/IO (io), P21 DIFFIO_R36p/IO (io), P22 DIFFIO_R36n/IO (io), R17 DIFFIO_R49p/IO (io), R19 DIFFIO_R40p/IO (io), R20 DIFFIO_R42n/IO (io), R21 DIFFIO_R38p/IO (io), R22 DIFFIO_R38n/IO (io), T17 RUP3/IO (io), T18 RDN3/IO (io), T19 DIFFIO_R45p/IO (io), T20 DIFFIO_R45n/IO (io), T21 DIFFCLK_3p/CLK6 (in), T22 DIFFCLK_3n/CLK7 (in), U20 DIFFIO_R48n/IO (io), U21 DIFFIO_R41p/IO (io), U22 DIFFIO_R41n/IO (io), V19 VCCIO5, V21 DIFFIO_R43p/IO (io), V22 DIFFIO_R43n/IO (io), W19 VREFB5N2/IO (io), W20 CDPCLK4/DIFFIO_R50n/IO (io), W21 DIFFIO_R46p/IO (io), W22 DIFFIO_R46n/IO (io), Y19 VCCIO5, Y22 DIFFIO_R49n/IO (io)
part D pins: A2 VCCIO8, A3 DIFFIO_T9n/IO (io), A4 DIFFIO_T14n/IO (io), A5 DATA5/DIFFIO_T18p/IO (io), A6 DIFFIO_T22n/IO (io), A7 DIFFIO_T23n/IO (io), A8 DATA2/DIFFIO_T25n/IO (io), A9 DIFFIO_T29n/IO (io), A10 DIFFIO_T30n/IO (io), A11 DIFFCLK_4n/CLK10 (in), A12 DIFFCLK_5n/CLK8 (in), A13 DIFFIO_T35n/IO (io), A14 DIFFIO_T36n/IO (io), A15 DIFFIO_T45n/IO (io), A16 DIFFIO_T49n/IO (io), A17 DIFFIO_T50n/IO (io), A18 DIFFIO_T53n/IO (io), A19 RDN4/IO (io), A20 PLL2_CLKOUTn/IO (io), A21 VCCIO7, B3 DIFFIO_T9p/IO (io), B4 DIFFIO_T14p/IO (io), B5 VREFB8N1/IO (io), B6 DIFFIO_T22p/IO (io), B7 DATA4/DIFFIO_T23p/IO (io), B8 DATA3/DIFFIO_T25p/IO (io), B9 DPCLK10/DIFFIO_T29p/IO (io), B10 DIFFIO_T30p/IO (io), B11 DIFFCLK_4p/CLK11 (in), B12 DIFFCLK_5p/CLK9 (in), B13 DPCLK9/DIFFIO_T35p/IO (io), B14 DIFFIO_T36p/IO (io), B15 DIFFIO_T45p/IO (io), B16 DIFFIO_T49p/IO (io), B17 DIFFIO_T50p/IO (io), B18 DIFFIO_T53p/IO (io), B19 RUP4/IO (io), B20 PLL2_CLKOUTp/IO (io), C3 DIFFIO_T4n/IO (io), C4 CDPCLK7/DIFFIO_T4p/IO (io), C6 DATA7/DIFFIO_T15n/IO (io), C7 DIFFIO_T20p/IO (io), C8 DPCLK11/DIFFIO_T20n/IO (io), C10 VREFB8N0/IO (io), C13 DIFFIO_T44n/IO (io), C15 VREFB7N1/IO (io), C17 DIFFIO_T54p/IO (io), C18 DIFFIO_T58n/IO (io), C19 DIFFIO_T56n/IO (io), D5 VCCIO8, D6 VREFB8N2/IO (io), D7 DIFFIO_T15p/IO (io), D8 DIFFIO_T19n/IO (io), D9 VCCIO8, D10 DIFFIO_T31n/IO (io), D11 VCCIO8, D12 VCCIO7, D13 DIFFIO_T44p/IO (io), D14 VCCIO7, D15 DIFFIO_T52n/IO (io), D16 VCCIO7, D17 VREFB7N0/IO (io), D18 DIFFIO_T58p/IO (io), D19 DIFFIO_T56p/IO (io), E5 PLL3_CLKOUTp/IO (io), E6 PLL3_CLKOUTn/IO (io), E7 DIFFIO_T7n/IO (io), E8 DIFFIO_T19p/IO (io), E9 DIFFIO_T21n/IO (io), E11 DIFFIO_T32n/IO (io), E12 DIFFIO_T33p/IO (io), E13 VREFB7N2/IO (io), E14 DIFFIO_T46n/IO (io), E15 DIFFIO_T52p/IO (io), E16 DIFFIO_T60n/IO (io), F7 DIFFIO_T3n/IO (io), F8 DIFFIO_T11n/IO (io), F9 IO (io), F10 DATA6/DIFFIO_T17p/IO (io), F11 DIFFIO_T32p/IO (io), F13 DPCLK8/DIFFIO_T46p/IO (io), F14 CDPCLK6/DIFFIO_T59p/IO (io), F15 DIFFIO_T60p/IO (io)
part E pins: A1 GND, A22 GND, AA1 GND, AA2 GND, AA17 GND, AB1 GND, AB17 GND, AB22 GND, C1 GND, C2 GND, C5 GND, C9 GND, C11 GND, C12 GND, C14 GND, C16 GND, D3 GND, E10 GND, E17 VCCD_PLL2, E18 GNDA2, E20 GND, F3 GND, F5 GNDA3, F6 VCCD_PLL3, F12 GND, F16 GND, F18 VCCA2, G4 VCCINT, G6 VCCA3, G7 GND, G8 VCCINT, G9 GND, G10 VCCINT, G11 GND, G12 VCCINT, G13 GND, G14 VCCINT, G15 GND, G16 VCCINT, G17 GND, G20 GND, H8 GND, H9 VCCINT, H10 GND, H11 VCCINT, H12 GND, H13 GND, H14 GND, H15 VCCINT, H16 GND, H17 VCCINT, J5 GND, J7 VCCINT, J8 VCCINT, J9 GND, J10 VCCINT, J11 VCCINT, J12 VCCINT, J13 VCCINT, J14 VCCINT, J15 GND, J16 VCCINT, J17 VCCINT, J19 GND, K3 GND, K7 GND, K8 VCCINT, K9 VCCINT, K10 GND, K11 GND, K12 GND, K13 GND, K14 VCCINT, K15 VCCINT, K16 GND, K17 VCCINT, L7 VCCINT, L8 GND, L9 VCCINT, L10 GND, L11 GND, L12 GND, L13 GND, L14 VCCINT, L15 GND, L16 VCCINT, L20 GND, M7 GND, M8 VCCINT, M9 VCCINT, M10 GND, M11 GND, M12 GND, M13 GND, M14 VCCINT, M15 VCCINT, N3 GND, N7 VCCINT, N8 GND, N9 VCCINT, N10 GND, N11 GND, N12 GND, N13 GND, N14 VCCINT, N15 GND, N16 VCCINT, N17 GND, P6 GND, P7 VCCINT, P8 GND, P9 VCCINT, P10 VCCINT, P11 VCCINT, P12 VCCINT, P13 VCCINT, P14 VCCINT, P15 VCCINT, P16 GND, P17 VCCINT, P19 GND, R6 VCCINT, R7 GND, R8 VCCINT, R9 GND, R10 VCCINT, R11 GND, R12 VCCINT, R13 GND, R14 VCCINT, R15 VCCINT, R18 GND, T6 VCCA1, T7 VCCINT, T8 GND, T9 VCCINT, T10 GND, T11 VCCINT, T12 GND, T13 VCCINT, T14 GND, U3 GND, U5 GNDA1, U6 VCCD_PLL1, U7 GND, U8 VCCINT, U13 GND, U15 VCCINT, U16 VCCINT, U17 VCCINT, U18 VCCA4, U19 GND, V6 GND, V7 VCCINT, V17 VCCD_PLL4, V18 GNDA4, V20 GND, W3 GND, Y5 GND, Y9 GND, Y11 GND, Y12 GND, Y16 GND, Y18 GND, Y20 GND, Y21 GND

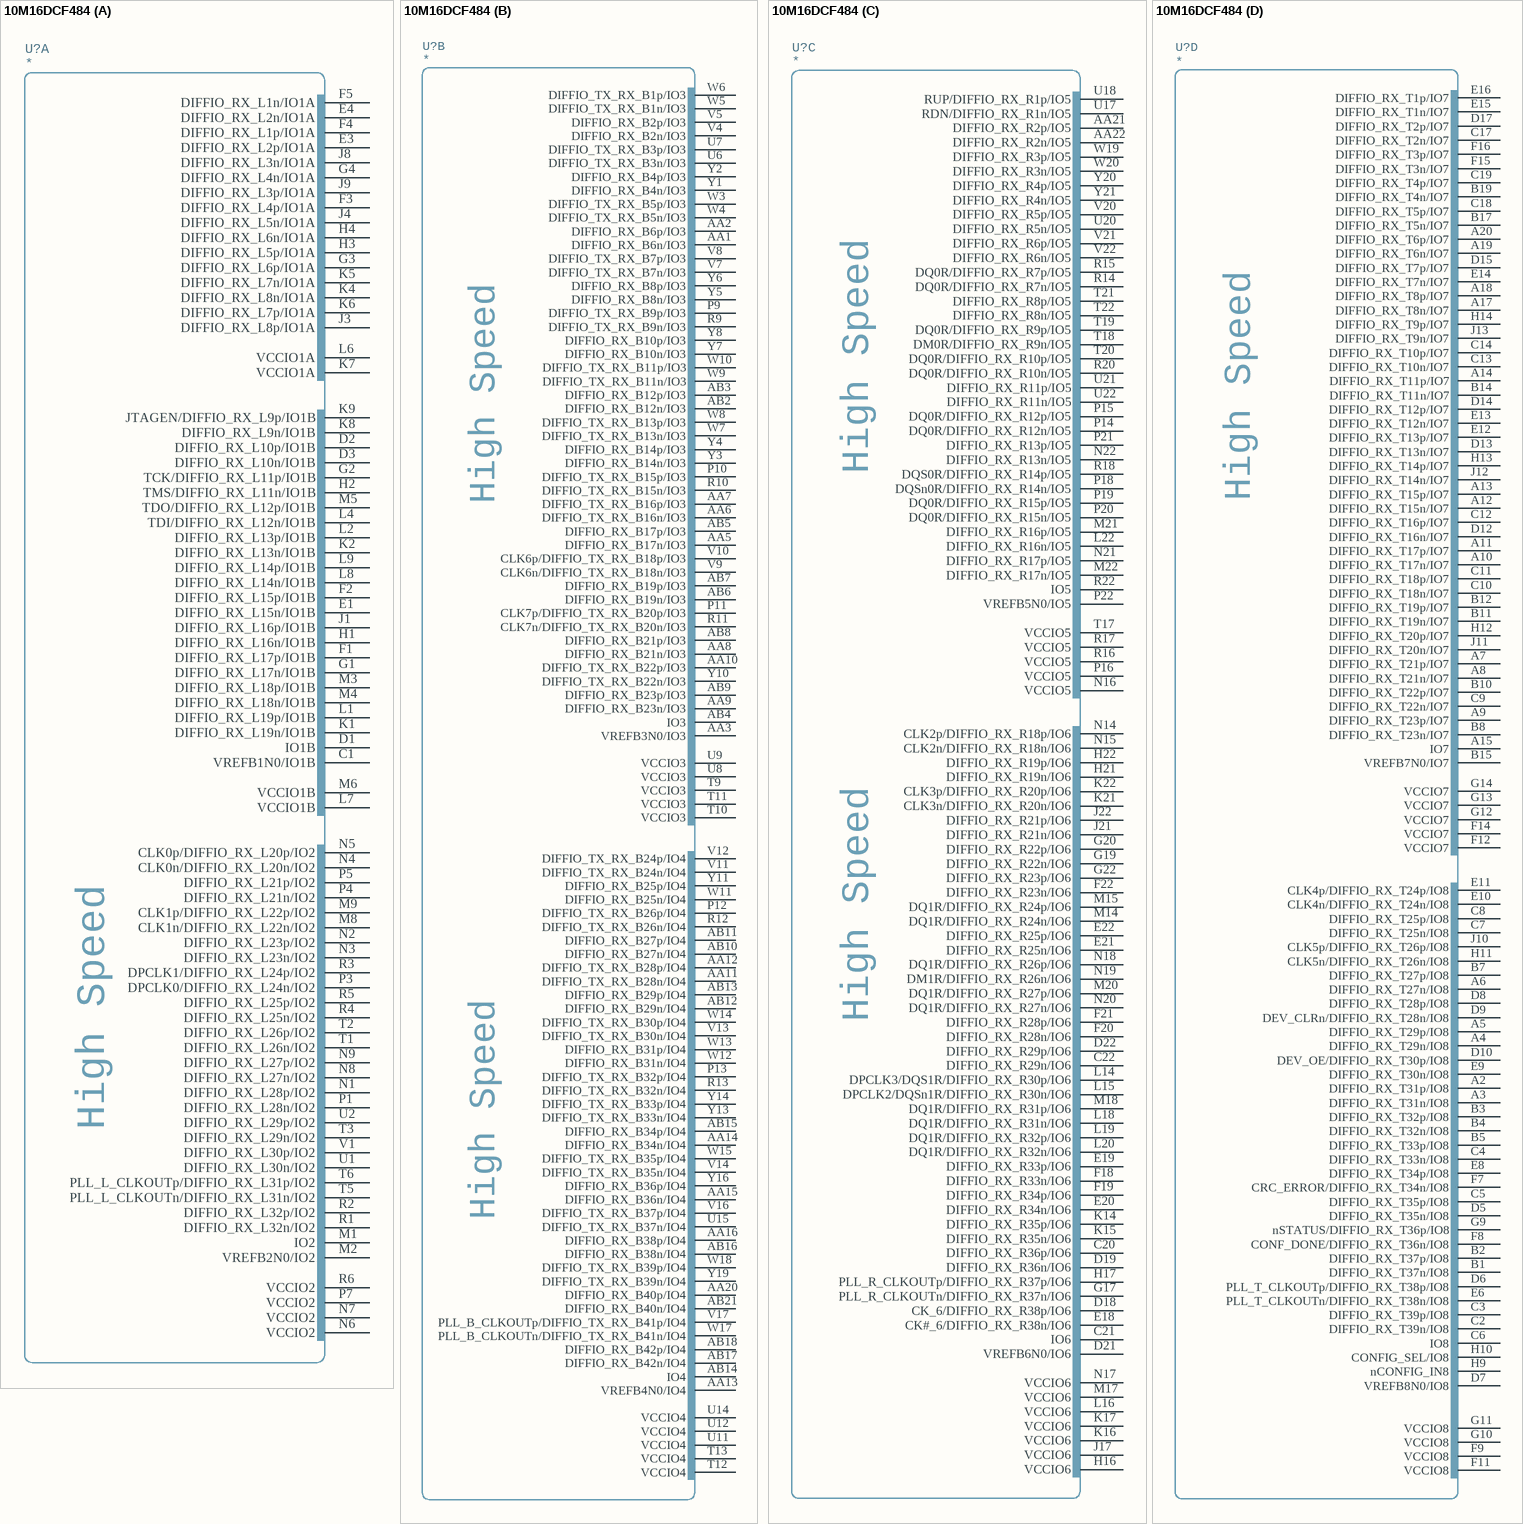
[diagram p8: symbol 10M16DCF484]

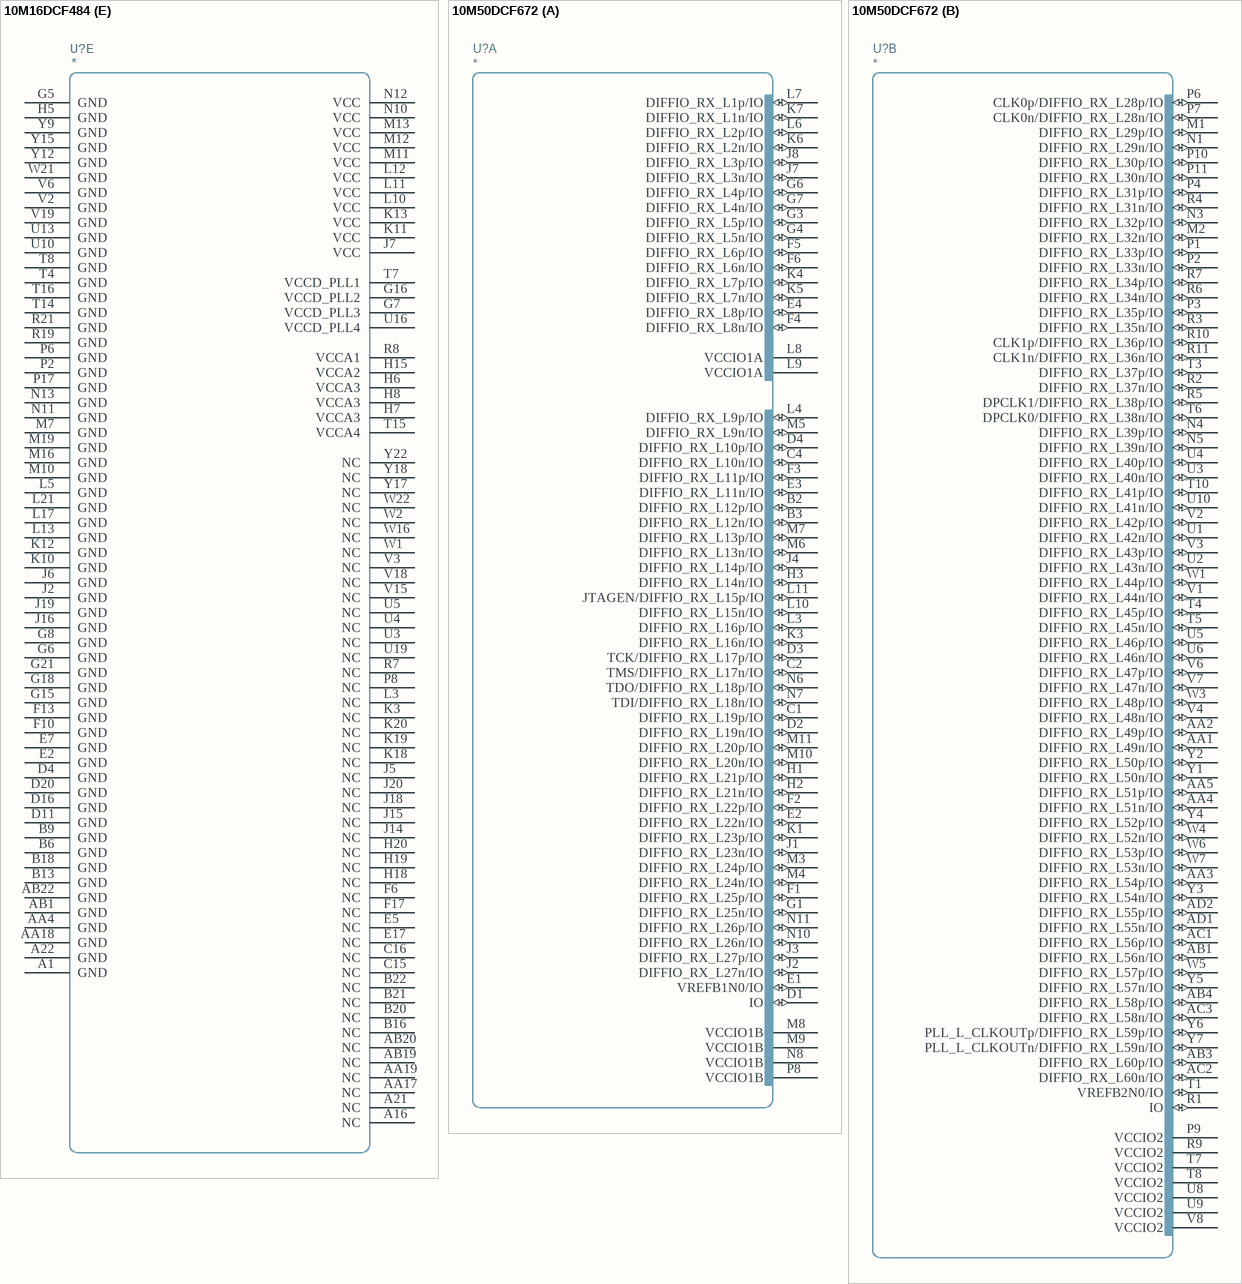
[diagram p9: symbols 10M16DCF484 to 10M50DCF672]

## 10M16DCF484
designator U?
part A pins: C1 VREFB1N0/IO1B, D1 IO1B, D2 DIFFIO_RX_L10p/IO1B, D3 DIFFIO_RX_L10n/IO1B, E1 DIFFIO_RX_L15n/IO1B, E3 DIFFIO_RX_L2p/IO1A, E4 DIFFIO_RX_L2n/IO1A, F1 DIFFIO_RX_L17p/IO1B, F2 DIFFIO_RX_L15p/IO1B, F3 DIFFIO_RX_L4p/IO1A, F4 DIFFIO_RX_L1p/IO1A, F5 DIFFIO_RX_L1n/IO1A, G1 DIFFIO_RX_L17n/IO1B, G2 TCK/DIFFIO_RX_L11p/IO1B, G3 DIFFIO_RX_L6p/IO1A, G4 DIFFIO_RX_L4n/IO1A, H1 DIFFIO_RX_L16n/IO1B, H2 TMS/DIFFIO_RX_L11n/IO1B, H3 DIFFIO_RX_L5p/IO1A, H4 DIFFIO_RX_L6n/IO1A, J1 DIFFIO_RX_L16p/IO1B, J3 DIFFIO_RX_L8p/IO1A, J4 DIFFIO_RX_L5n/IO1A, J8 DIFFIO_RX_L3n/IO1A, J9 DIFFIO_RX_L3p/IO1A, K1 DIFFIO_RX_L19n/IO1B, K2 DIFFIO_RX_L13n/IO1B, K4 DIFFIO_RX_L8n/IO1A, K5 DIFFIO_RX_L7n/IO1A, K6 DIFFIO_RX_L7p/IO1A, K7 VCCIO1A, K8 DIFFIO_RX_L9n/IO1B, K9 JTAGEN/DIFFIO_RX_L9p/IO1B, L1 DIFFIO_RX_L19p/IO1B, L2 DIFFIO_RX_L13p/IO1B, L4 TDI/DIFFIO_RX_L12n/IO1B, L6 VCCIO1A, L7 VCCIO1B, L8 DIFFIO_RX_L14n/IO1B, L9 DIFFIO_RX_L14p/IO1B, M1 IO2, M2 VREFB2N0/IO2, M3 DIFFIO_RX_L18p/IO1B, M4 DIFFIO_RX_L18n/IO1B, M5 TDO/DIFFIO_RX_L12p/IO1B, M6 VCCIO1B, M8 CLK1n/DIFFIO_RX_L22n/IO2, M9 CLK1p/DIFFIO_RX_L22p/IO2, N1 DIFFIO_RX_L28p/IO2, N2 DIFFIO_RX_L23p/IO2, N3 DIFFIO_RX_L23n/IO2, N4 CLK0n/DIFFIO_RX_L20n/IO2, N5 CLK0p/DIFFIO_RX_L20p/IO2, N6 VCCIO2, N7 VCCIO2, N8 DIFFIO_RX_L27n/IO2, N9 DIFFIO_RX_L27p/IO2, P1 DIFFIO_RX_L28n/IO2, P3 DPCLK0/DIFFIO_RX_L24n/IO2, P4 DIFFIO_RX_L21n/IO2, P5 DIFFIO_RX_L21p/IO2, P7 VCCIO2, R1 DIFFIO_RX_L32n/IO2, R2 DIFFIO_RX_L32p/IO2, R3 DPCLK1/DIFFIO_RX_L24p/IO2, R4 DIFFIO_RX_L25n/IO2, R5 DIFFIO_RX_L25p/IO2, R6 VCCIO2, T1 DIFFIO_RX_L26n/IO2, T2 DIFFIO_RX_L26p/IO2, T3 DIFFIO_RX_L29n/IO2, T5 PLL_L_CLKOUTn/DIFFIO_RX_L31n/IO2, T6 PLL_L_CLKOUTp/DIFFIO_RX_L31p/IO2, U1 DIFFIO_RX_L30n/IO2, U2 DIFFIO_RX_L29p/IO2, V1 DIFFIO_RX_L30p/IO2
part B pins: AA1 DIFFIO_RX_B6n/IO3, AA2 DIFFIO_RX_B6p/IO3, AA3 VREFB3N0/IO3, AA5 DIFFIO_RX_B17n/IO3, AA6 DIFFIO_TX_RX_B16n/IO3, AA7 DIFFIO_TX_RX_B16p/IO3, AA8 DIFFIO_RX_B21n/IO3, AA9 DIFFIO_RX_B23n/IO3, AA10 DIFFIO_TX_RX_B22p/IO3, AA11 DIFFIO_TX_RX_B28n/IO4, AA12 DIFFIO_TX_RX_B28p/IO4, AA13 VREFB4N0/IO4, AA14 DIFFIO_RX_B34n/IO4, AA15 DIFFIO_RX_B36n/IO4, AA16 DIFFIO_RX_B38p/IO4, AA20 DIFFIO_RX_B40p/IO4, AB2 DIFFIO_RX_B12n/IO3, AB3 DIFFIO_RX_B12p/IO3, AB4 IO3, AB5 DIFFIO_RX_B17p/IO3, AB6 DIFFIO_RX_B19n/IO3, AB7 DIFFIO_RX_B19p/IO3, AB8 DIFFIO_RX_B21p/IO3, AB9 DIFFIO_RX_B23p/IO3, AB10 DIFFIO_RX_B27n/IO4, AB11 DIFFIO_RX_B27p/IO4, AB12 DIFFIO_RX_B29n/IO4, AB13 DIFFIO_RX_B29p/IO4, AB14 IO4, AB15 DIFFIO_RX_B34p/IO4, AB16 DIFFIO_RX_B38n/IO4, AB17 DIFFIO_RX_B42n/IO4, AB18 DIFFIO_RX_B42p/IO4, AB21 DIFFIO_RX_B40n/IO4, P9 DIFFIO_TX_RX_B9p/IO3, P10 DIFFIO_TX_RX_B15p/IO3, P11 CLK7p/DIFFIO_TX_RX_B20p/IO3, P12 DIFFIO_TX_RX_B26p/IO4, P13 DIFFIO_TX_RX_B32p/IO4, R9 DIFFIO_TX_RX_B9n/IO3, R10 DIFFIO_TX_RX_B15n/IO3, R11 CLK7n/DIFFIO_TX_RX_B20n/IO3, R12 DIFFIO_TX_RX_B26n/IO4, R13 DIFFIO_TX_RX_B32n/IO4, T9 VCCIO3, T10 VCCIO3, T11 VCCIO3, T12 VCCIO4, T13 VCCIO4, U6 DIFFIO_TX_RX_B3n/IO3, U7 DIFFIO_TX_RX_B3p/IO3, U8 VCCIO3, U9 VCCIO3, U11 VCCIO4, U12 VCCIO4, U14 VCCIO4, U15 DIFFIO_TX_RX_B37n/IO4, V4 DIFFIO_RX_B2n/IO3, V5 DIFFIO_RX_B2p/IO3, V7 DIFFIO_TX_RX_B7n/IO3, V8 DIFFIO_TX_RX_B7p/IO3, V9 CLK6n/DIFFIO_TX_RX_B18n/IO3, V10 CLK6p/DIFFIO_TX_RX_B18p/IO3, V11 DIFFIO_TX_RX_B24n/IO4, V12 DIFFIO_TX_RX_B24p/IO4, V13 DIFFIO_TX_RX_B30n/IO4, V14 DIFFIO_TX_RX_B35n/IO4, V16 DIFFIO_TX_RX_B37p/IO4, V17 PLL_B_CLKOUTp/DIFFIO_TX_RX_B41p/IO4, W3 DIFFIO_TX_RX_B5p/IO3, W4 DIFFIO_TX_RX_B5n/IO3, W5 DIFFIO_TX_RX_B1n/IO3, W6 DIFFIO_TX_RX_B1p/IO3, W7 DIFFIO_TX_RX_B13n/IO3, W8 DIFFIO_TX_RX_B13p/IO3, W9 DIFFIO_TX_RX_B11n/IO3, W10 DIFFIO_TX_RX_B11p/IO3, W11 DIFFIO_RX_B25n/IO4, W12 DIFFIO_RX_B31n/IO4, W13 DIFFIO_RX_B31p/IO4, W14 DIFFIO_TX_RX_B30p/IO4, W15 DIFFIO_TX_RX_B35p/IO4, W17 PLL_B_CLKOUTn/DIFFIO_TX_RX_B41n/IO4, W18 DIFFIO_TX_RX_B39p/IO4, Y1 DIFFIO_RX_B4n/IO3, Y2 DIFFIO_RX_B4p/IO3, Y3 DIFFIO_RX_B14n/IO3, Y4 DIFFIO_RX_B14p/IO3, Y5 DIFFIO_RX_B8n/IO3, Y6 DIFFIO_RX_B8p/IO3, Y7 DIFFIO_RX_B10n/IO3, Y8 DIFFIO_RX_B10p/IO3, Y10 DIFFIO_TX_RX_B22n/IO3, Y11 DIFFIO_RX_B25p/IO4, Y13 DIFFIO_TX_RX_B33n/IO4, Y14 DIFFIO_TX_RX_B33p/IO4, Y16 DIFFIO_RX_B36p/IO4, Y19 DIFFIO_TX_RX_B39n/IO4
part C pins: AA21 DIFFIO_RX_R2p/IO5, AA22 DIFFIO_RX_R2n/IO5, C20 DIFFIO_RX_R36p/IO6, C21 IO6, C22 DIFFIO_RX_R29n/IO6, D18 CK_6/DIFFIO_RX_R38p/IO6, D19 DIFFIO_RX_R36n/IO6, D21 VREFB6N0/IO6, D22 DIFFIO_RX_R29p/IO6, E18 CK#_6/DIFFIO_RX_R38n/IO6, E19 DIFFIO_RX_R33p/IO6, E20 DIFFIO_RX_R34n/IO6, E21 DIFFIO_RX_R25n/IO6, E22 DIFFIO_RX_R25p/IO6, F18 DIFFIO_RX_R33n/IO6, F19 DIFFIO_RX_R34p/IO6, F20 DIFFIO_RX_R28n/IO6, F21 DIFFIO_RX_R28p/IO6, F22 DIFFIO_RX_R23n/IO6, G17 PLL_R_CLKOUTn/DIFFIO_RX_R37n/IO6, G19 DIFFIO_RX_R22n/IO6, G20 DIFFIO_RX_R22p/IO6, G22 DIFFIO_RX_R23p/IO6, H16 VCCIO6, H17 PLL_R_CLKOUTp/DIFFIO_RX_R37p/IO6, H21 DIFFIO_RX_R19n/IO6, H22 DIFFIO_RX_R19p/IO6, J17 VCCIO6, J21 DIFFIO_RX_R21n/IO6, J22 DIFFIO_RX_R21p/IO6, K14 DIFFIO_RX_R35p/IO6, K15 DIFFIO_RX_R35n/IO6, K16 VCCIO6, K17 VCCIO6, K21 CLK3n/DIFFIO_RX_R20n/IO6, K22 CLK3p/DIFFIO_RX_R20p/IO6, L14 DPCLK3/DQS1R/DIFFIO_RX_R30p/IO6, L15 DPCLK2/DQSn1R/DIFFIO_RX_R30n/IO6, L16 VCCIO6, L18 DQ1R/DIFFIO_RX_R31n/IO6, L19 DQ1R/DIFFIO_RX_R32p/IO6, L20 DQ1R/DIFFIO_RX_R32n/IO6, L22 DIFFIO_RX_R16n/IO5, M14 DQ1R/DIFFIO_RX_R24n/IO6, M15 DQ1R/DIFFIO_RX_R24p/IO6, M17 VCCIO6, M18 DQ1R/DIFFIO_RX_R31p/IO6, M20 DQ1R/DIFFIO_RX_R27p/IO6, M21 DIFFIO_RX_R16p/IO5, M22 DIFFIO_RX_R17n/IO5, N14 CLK2p/DIFFIO_RX_R18p/IO6, N15 CLK2n/DIFFIO_RX_R18n/IO6, N16 VCCIO5, N17 VCCIO6, N18 DQ1R/DIFFIO_RX_R26p/IO6, N19 DM1R/DIFFIO_RX_R26n/IO6, N20 DQ1R/DIFFIO_RX_R27n/IO6, N21 DIFFIO_RX_R17p/IO5, N22 DIFFIO_RX_R13n/IO5, P14 DQ0R/DIFFIO_RX_R12n/IO5, P15 DQ0R/DIFFIO_RX_R12p/IO5, P16 VCCIO5, P18 DQSn0R/DIFFIO_RX_R14n/IO5, P19 DQ0R/DIFFIO_RX_R15p/IO5, P20 DQ0R/DIFFIO_RX_R15n/IO5, P21 DIFFIO_RX_R13p/IO5, P22 VREFB5N0/IO5, R14 DQ0R/DIFFIO_RX_R7n/IO5, R15 DQ0R/DIFFIO_RX_R7p/IO5, R16 VCCIO5, R17 VCCIO5, R18 DQS0R/DIFFIO_RX_R14p/IO5, R20 DQ0R/DIFFIO_RX_R10n/IO5, R22 IO5, T17 VCCIO5, T18 DM0R/DIFFIO_RX_R9n/IO5, T19 DQ0R/DIFFIO_RX_R9p/IO5, T20 DQ0R/DIFFIO_RX_R10p/IO5, T21 DIFFIO_RX_R8p/IO5, T22 DIFFIO_RX_R8n/IO5, U17 RDN/DIFFIO_RX_R1n/IO5, U18 RUP/DIFFIO_RX_R1p/IO5, U20 DIFFIO_RX_R5n/IO5, U21 DIFFIO_RX_R11p/IO5, U22 DIFFIO_RX_R11n/IO5, V20 DIFFIO_RX_R5p/IO5, V21 DIFFIO_RX_R6p/IO5, V22 DIFFIO_RX_R6n/IO5, W19 DIFFIO_RX_R3p/IO5, W20 DIFFIO_RX_R3n/IO5, Y20 DIFFIO_RX_R4p/IO5, Y21 DIFFIO_RX_R4n/IO5
part D pins: A2 DIFFIO_RX_T31p/IO8, A3 DIFFIO_RX_T31n/IO8, A4 DIFFIO_RX_T29n/IO8, A5 DIFFIO_RX_T29p/IO8, A6 DIFFIO_RX_T27n/IO8, A7 DIFFIO_RX_T21p/IO7, A8 DIFFIO_RX_T21n/IO7, A9 DIFFIO_RX_T23p/IO7, A10 DIFFIO_RX_T17n/IO7, A11 DIFFIO_RX_T17p/IO7, A12 DIFFIO_RX_T15n/IO7, A13 DIFFIO_RX_T15p/IO7, A14 DIFFIO_RX_T11p/IO7, A15 IO7, A17 DIFFIO_RX_T8n/IO7, A18 DIFFIO_RX_T8p/IO7, A19 DIFFIO_RX_T6n/IO7, A20 DIFFIO_RX_T6p/IO7, B1 DIFFIO_RX_T37n/IO8, B2 DIFFIO_RX_T37p/IO8, B3 DIFFIO_RX_T32p/IO8, B4 DIFFIO_RX_T32n/IO8, B5 DIFFIO_RX_T33p/IO8, B7 DIFFIO_RX_T27p/IO8, B8 DIFFIO_RX_T23n/IO7, B10 DIFFIO_RX_T22p/IO7, B11 DIFFIO_RX_T19n/IO7, B12 DIFFIO_RX_T19p/IO7, B14 DIFFIO_RX_T11n/IO7, B15 VREFB7N0/IO7, B17 DIFFIO_RX_T5n/IO7, B19 DIFFIO_RX_T4n/IO7, C2 DIFFIO_RX_T39n/IO8, C3 DIFFIO_RX_T39p/IO8, C4 DIFFIO_RX_T33n/IO8, C5 DIFFIO_RX_T35p/IO8, C6 IO8, C7 DIFFIO_RX_T25n/IO8, C8 DIFFIO_RX_T25p/IO8, C9 DIFFIO_RX_T22n/IO7, C10 DIFFIO_RX_T18n/IO7, C11 DIFFIO_RX_T18p/IO7, C12 DIFFIO_RX_T16p/IO7, C13 DIFFIO_RX_T10n/IO7, C14 DIFFIO_RX_T10p/IO7, C17 DIFFIO_RX_T2n/IO7, C18 DIFFIO_RX_T5p/IO7, C19 DIFFIO_RX_T4p/IO7, D5 DIFFIO_RX_T35n/IO8, D6 PLL_T_CLKOUTp/DIFFIO_RX_T38p/IO8, D7 VREFB8N0/IO8, D8 DIFFIO_RX_T28p/IO8, D9 DEV_CLRn/DIFFIO_RX_T28n/IO8, D10 DEV_OE/DIFFIO_RX_T30p/IO8, D12 DIFFIO_RX_T16n/IO7, D13 DIFFIO_RX_T13n/IO7, D14 DIFFIO_RX_T12p/IO7, D15 DIFFIO_RX_T7p/IO7, D17 DIFFIO_RX_T2p/IO7, E6 PLL_T_CLKOUTn/DIFFIO_RX_T38n/IO8, E8 DIFFIO_RX_T34p/IO8, E9 DIFFIO_RX_T30n/IO8, E10 CLK4n/DIFFIO_RX_T24n/IO8, E11 CLK4p/DIFFIO_RX_T24p/IO8, E12 DIFFIO_RX_T13p/IO7, E13 DIFFIO_RX_T12n/IO7, E14 DIFFIO_RX_T7n/IO7, E15 DIFFIO_RX_T1n/IO7, E16 DIFFIO_RX_T1p/IO7, F7 CRC_ERROR/DIFFIO_RX_T34n/IO8, F8 CONF_DONE/DIFFIO_RX_T36n/IO8, F9 VCCIO8, F11 VCCIO8, F12 VCCIO7, F14 VCCIO7, F15 DIFFIO_RX_T3n/IO7, F16 DIFFIO_RX_T3p/IO7, G9 nSTATUS/DIFFIO_RX_T36p/IO8, G10 VCCIO8, G11 VCCIO8, G12 VCCIO7, G13 VCCIO7, G14 VCCIO7, H9 nCONFIG_IN8, H10 CONFIG_SEL/IO8, H11 CLK5n/DIFFIO_RX_T26n/IO8, H12 DIFFIO_RX_T20p/IO7, H13 DIFFIO_RX_T14p/IO7, H14 DIFFIO_RX_T9p/IO7, J10 CLK5p/DIFFIO_RX_T26p/IO8, J11 DIFFIO_RX_T20n/IO7, J12 DIFFIO_RX_T14n/IO7, J13 DIFFIO_RX_T9n/IO7
part E pins: A1 GND, A16 NC, A21 NC, A22 GND, AA4 GND, AA17 NC, AA18 GND, AA19 NC, AB1 GND, AB19 NC, AB20 NC, AB22 GND, B6 GND, B9 GND, B13 GND, B16 NC, B18 GND, B20 NC, B21 NC, B22 NC, C15 NC, C16 NC, D4 GND, D11 GND, D16 GND, D20 GND, E2 GND, E5 NC, E7 GND, E17 NC, F6 NC, F10 GND, F13 GND, F17 NC, G5 GND, G6 GND, G7 VCCD_PLL3, G8 GND, G15 GND, G16 VCCD_PLL2, G18 GND, G21 GND, H5 GND, H6 VCCA3, H7 VCCA3, H8 VCCA3, H15 VCCA2, H18 NC, H19 NC, H20 NC, J2 GND, J5 NC, J6 GND, J7 VCC, J14 NC, J15 NC, J16 GND, J18 NC, J19 GND, J20 NC, K3 NC, K10 GND, K11 VCC, K12 GND, K13 VCC, K18 NC, K19 NC, K20 NC, L3 NC, L5 GND, L10 VCC, L11 VCC, L12 VCC, L13 GND, L17 GND, L21 GND, M7 GND, M10 GND, M11 VCC, M12 VCC, M13 VCC, M16 GND, M19 GND, N10 VCC, N11 GND, N12 VCC, N13 GND, P2 GND, P6 GND, P8 NC, P17 GND, R7 NC, R8 VCCA1, R19 GND, R21 GND, T4 GND, T7 VCCD_PLL1, T8 GND, T14 GND, T15 VCCA4, T16 GND, U3 NC, U4 NC, U5 NC, U10 GND, U13 GND, U16 VCCD_PLL4, U19 NC, V2 GND, V3 NC, V6 GND, V15 NC, V18 NC, V19 GND, W1 NC, W2 NC, W16 NC, W21 GND, W22 NC, Y9 GND, Y12 GND, Y15 GND, Y17 NC, Y18 NC, Y22 NC
part A text: High Speed
part B text: High Speed
part C text: High Speed
part D text: High Speed

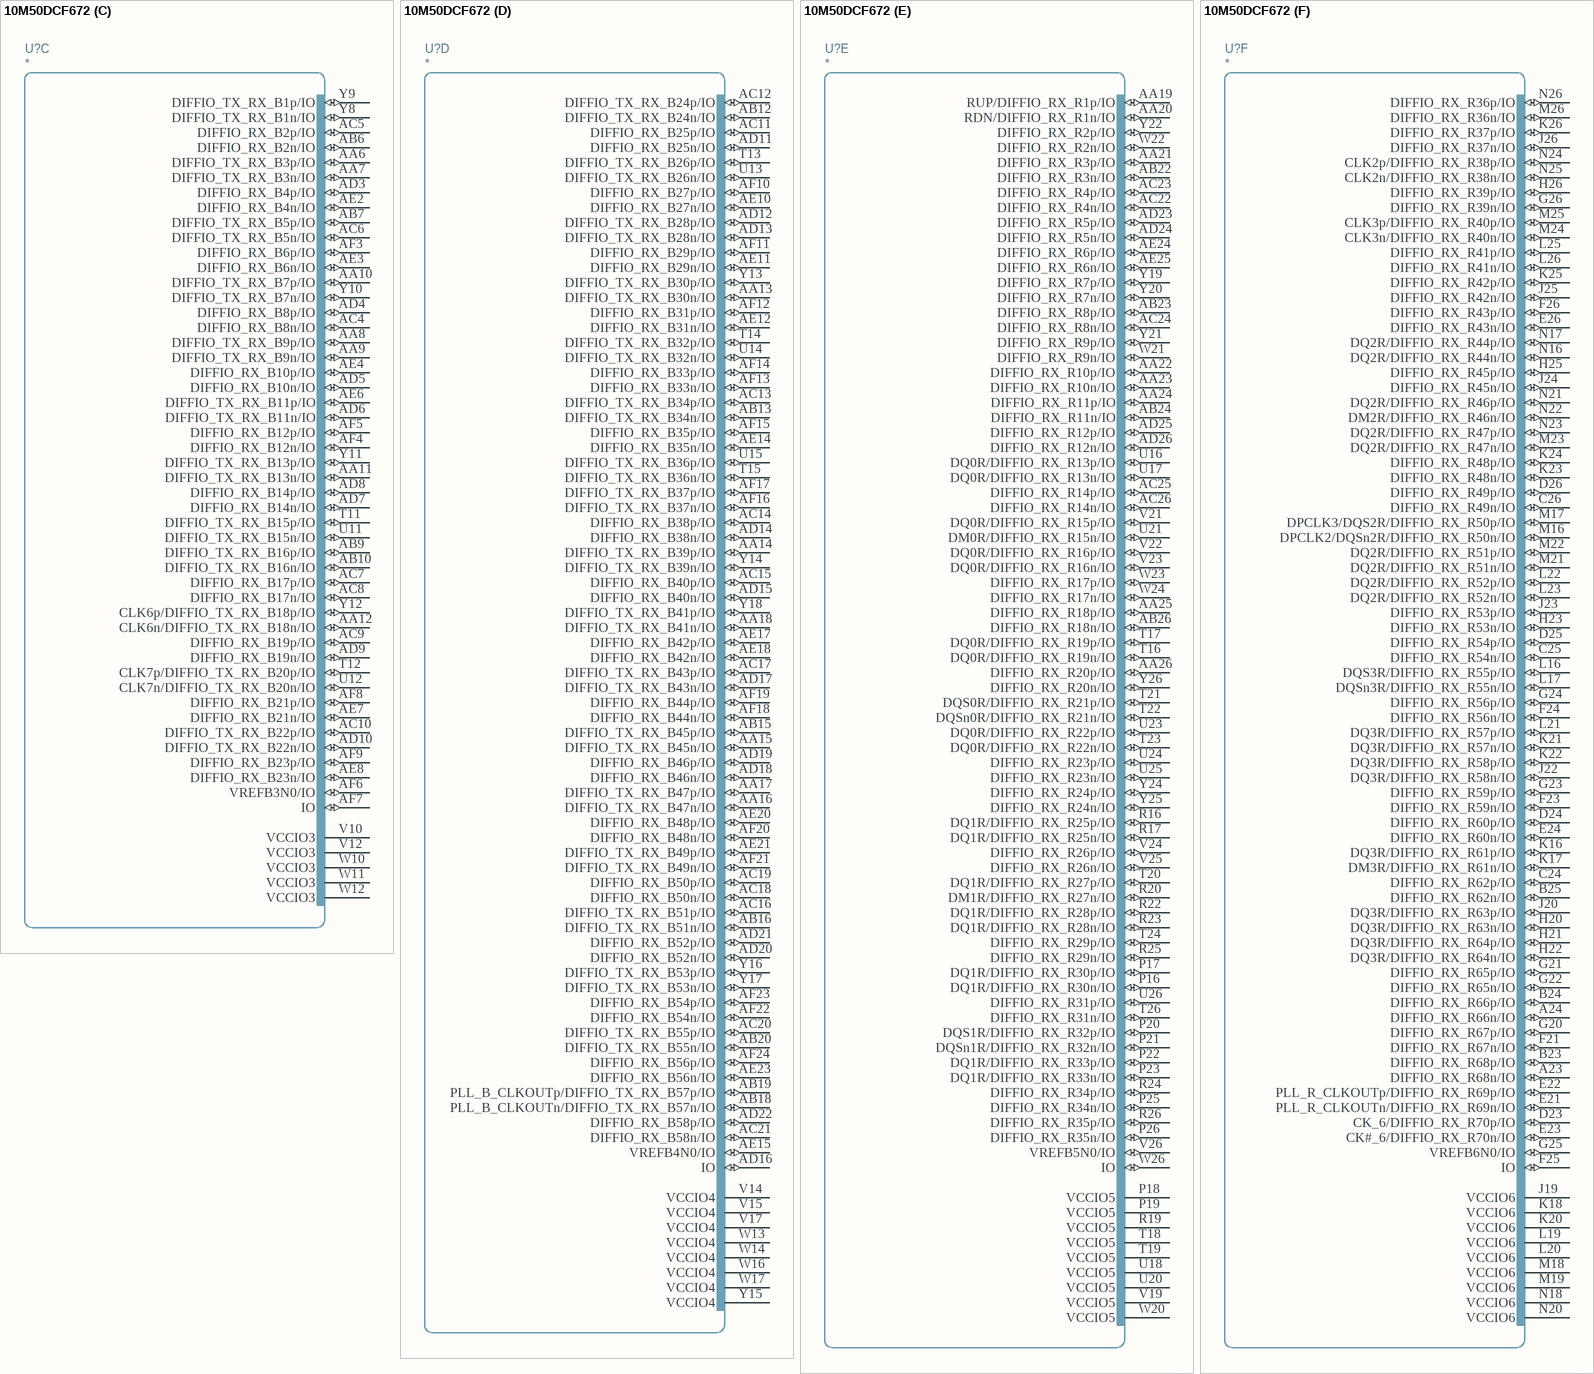
[diagram p10: symbol 10M50DCF672]

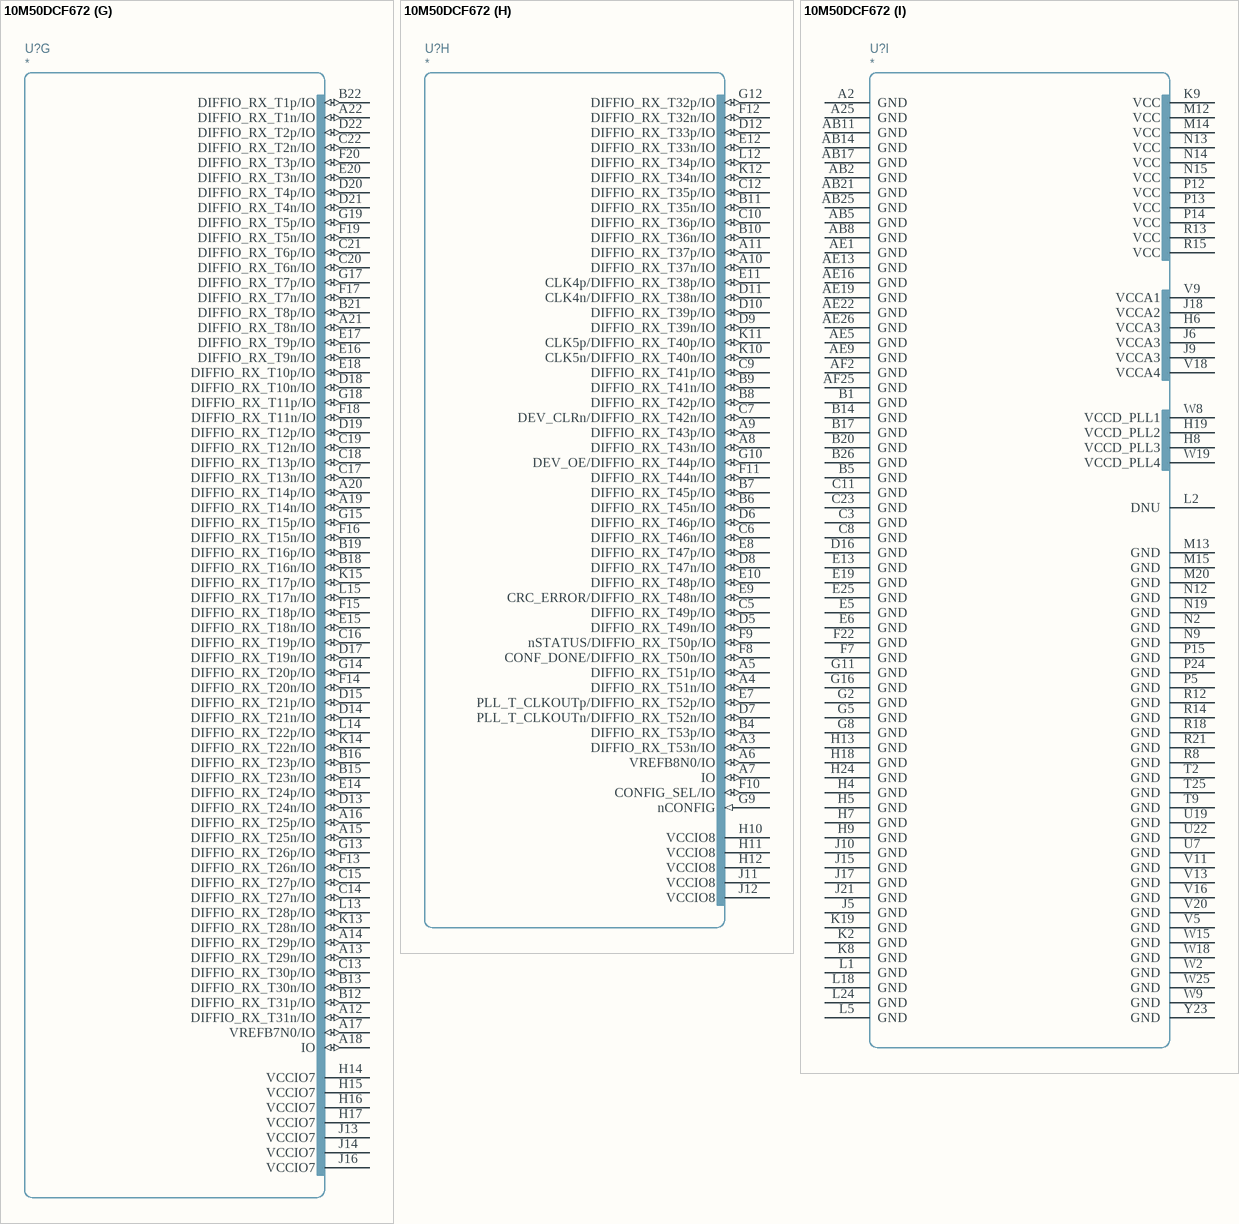
[diagram p11: symbol 10M50DCF672]